# Altium schematic symbol library Sch_Lib.SchLib: 596 symbols (part 2 of 7)
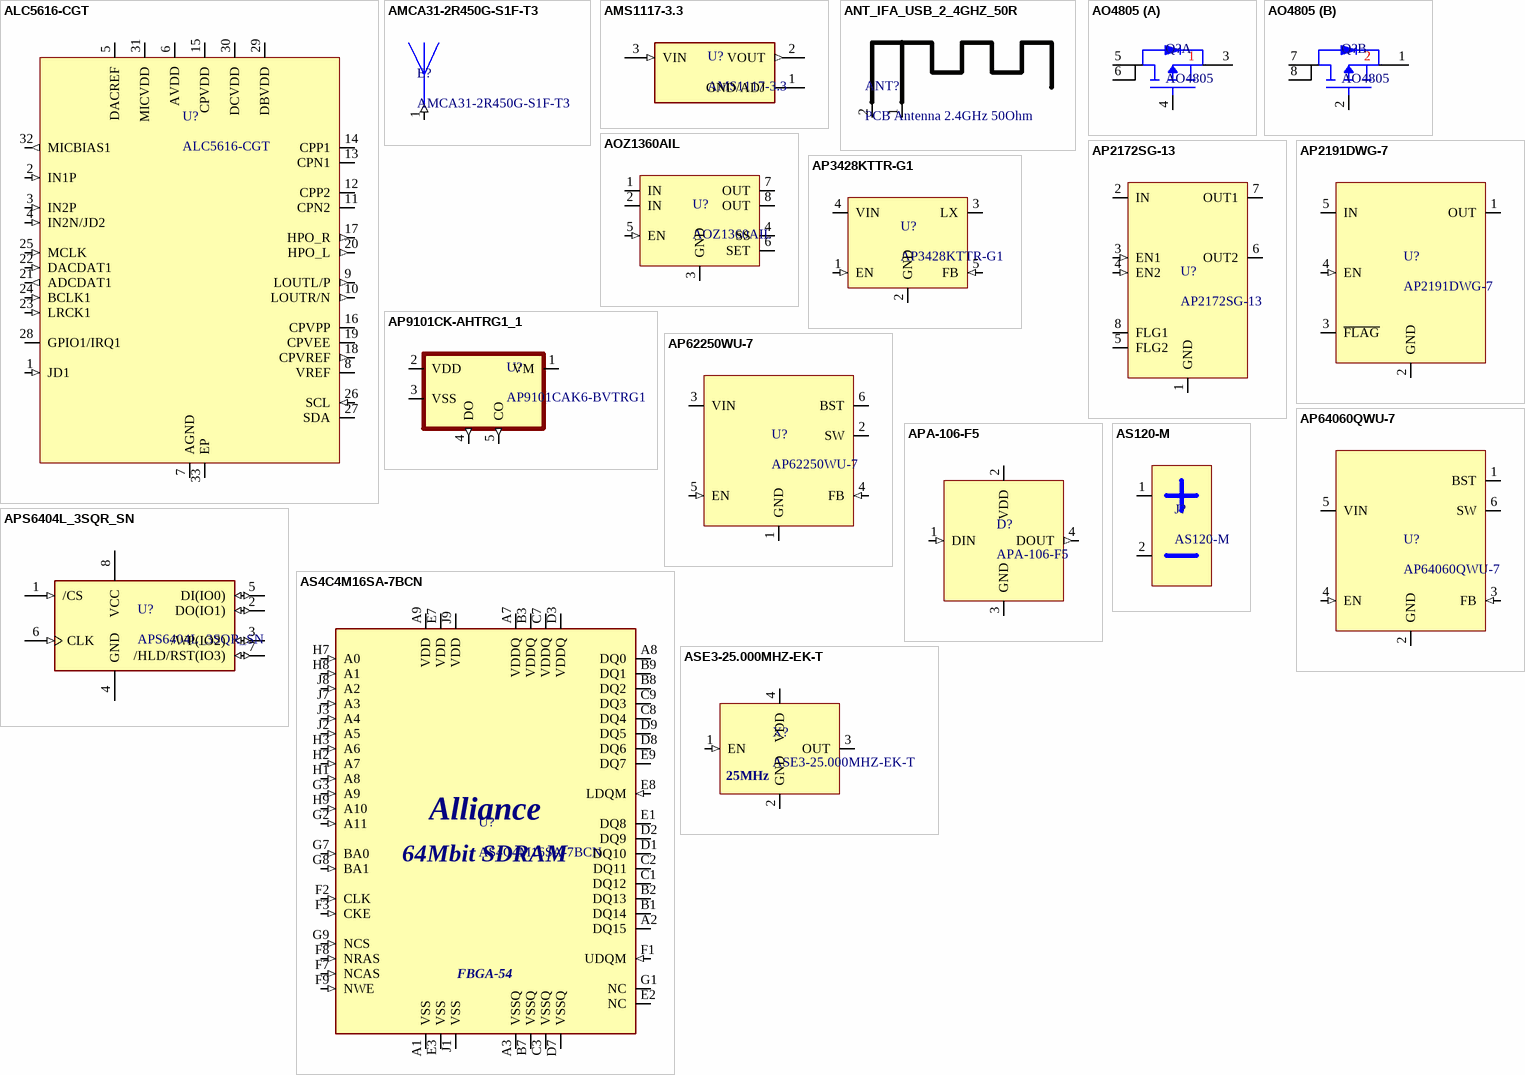
[diagram p38: symbols ALC5616-CGT to ASE3-25.000MHZ-EK-T]

## ASE3-25.000MHZ-EK-T
designator X?
Standard Clock Oscillators 25 MHZ 1.8V 15PF 4-PIN 3.2mm x 2.5mm; Manufacturer: ABRACON; Manufacturer Part Number: ASE3-25.000MHZ-EK-T
footprint XTAL_3225
pins: 1 EN (in), 2 GND (power), 3 OUT, 4 VDD (power)
text: 25MHz

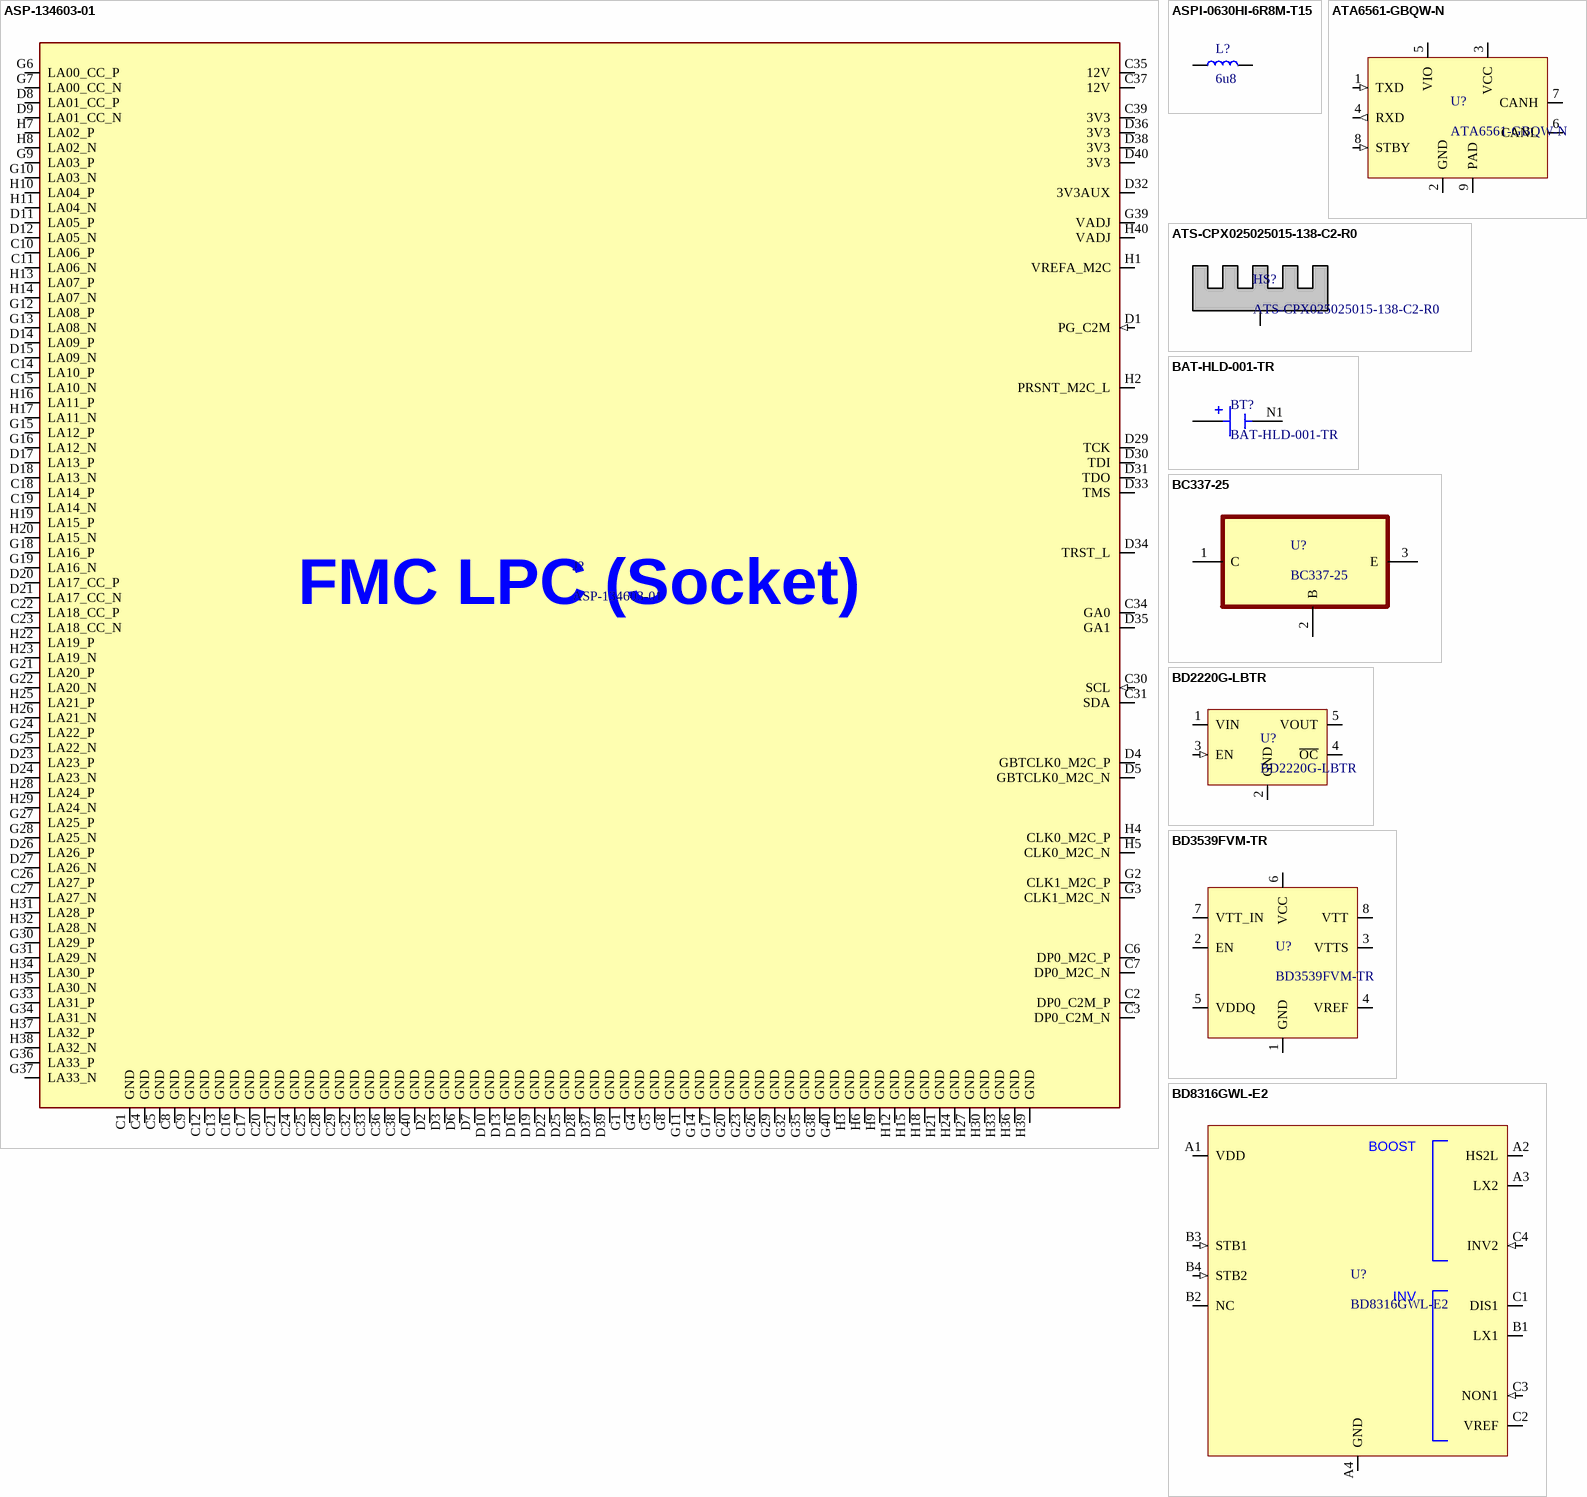
[diagram p6: symbols ASP-134603-01 to BD8316GWL-E2]

## ASP-134603-01
designator J?
VITA 57.1 FMC Connector LPC; Manufacturer: Samtec; Manufacturer Part Number: ASP-134603-01; Distributor Link: https://www.mouser.de/ProductDetail/Samtec/ASP-134603-01?qs=92ilVni64gy4PAaa88apew%3D%3D
footprint ASP-134603-01
pins: C1 GND (power), C2 DP0_C2M_P (io), C3 DP0_C2M_N (io), C4 GND (power), C5 GND (power), C6 DP0_M2C_P (io), C7 DP0_M2C_N (io), C8 GND (power), C9 GND (power), C10 LA06_P (io), C11 LA06_N (io), C12 GND (power), C13 GND (power), C14 LA10_P (io), C15 LA10_N (io), C16 GND (power), C17 GND (power), C18 LA14_P (io), C19 LA14_N (io), C20 GND (power), C21 GND (power), C22 LA18_CC_P (io), C23 LA18_CC_N (io), C24 GND (power), C25 GND (power), C26 LA27_P (io), C27 LA27_N (io), C28 GND (power), C29 GND (power), C30 SCL (in), C31 SDA (io), C32 GND (power), C33 GND (power), C34 GA0 (io), C35 12V (power), C36 GND, C37 12V (power), C38 GND, C39 3V3 (power), C40 GND, D1 PG_C2M (in), D2 GND (power), D3 GND (power), D4 GBTCLK0_M2C_P (io), D5 GBTCLK0_M2C_N (io), D6 GND (power), D7 GND (power), D8 LA01_CC_P (io), D9 LA01_CC_N (io), D10 GND (power), D11 LA05_P (io), D12 LA05_N (io), D13 GND (power), D14 LA09_P (io), D15 LA09_N (io), D16 GND (power), D17 LA13_P (io), D18 LA13_N (io), D19 GND (power), D20 LA17_CC_P (io), D21 LA17_CC_N (io), D22 GND (power), D23 LA23_P (io), D24 LA23_N (io), D25 GND (power), D26 LA26_P (io), D27 LA26_N (io), D28 GND (power), D29 TCK (io), D30 TDI (io), D31 TDO (io), D32 3V3AUX (power), D33 TMS (io), D34 TRST_L (io), D35 GA1 (io), D36 3V3 (power), D37 GND (power), D38 3V3 (power), D39 GND (power), D40 3V3 (power), G1 GND (power), G2 CLK1_M2C_P (io), G3 CLK1_M2C_N (io), G4 GND (power), G5 GND (power), G6 LA00_CC_P (io), G7 LA00_CC_N (io), G8 GND (power), G9 LA03_P (io), G10 LA03_N (io), G11 GND (power), G12 LA08_P (io), G13 LA08_N (io), G14 GND (power), G15 LA12_P (io), G16 LA12_N (io), G17 GND (power), G18 LA16_P (io), G19 LA16_N (io), G20 GND (power), G21 LA20_P (io), G22 LA20_N (io), G23 GND (power), G24 LA22_P (io), G25 LA22_N (io), G26 GND (power), G27 LA25_P (io), G28 LA25_N (io), G29 GND (power), G30 LA29_P (io), G31 LA29_N (io), G32 GND (power), G33 LA31_P (io), G34 LA31_N (io), G35 GND (power), G36 LA33_P (io), G37 LA33_N (io), G38 GND (power), G39 VADJ (power), G40 GND (power), H1 VREFA_M2C (power), H2 PRSNT_M2C_L (io), H3 GND (power), H4 CLK0_M2C_P (io), H5 CLK0_M2C_N (io), H6 GND (power), H7 LA02_P (io), H8 LA02_N (io), H9 GND (power), H10 LA04_P (io), H11 LA04_N (io), H12 GND (power), H13 LA07_P (io), H14 LA07_N (io), H15 GND (power), H16 LA11_P (io), H17 LA11_N (io), H18 GND (power), H19 LA15_P (io), H20 LA15_N (io), H21 GND (power), H22 LA19_P (io), H23 LA19_N (io), H24 GND (power), H25 LA21_P (io), H26 LA21_N (io), H27 GND (power), H28 LA24_P (io), H29 LA24_N (io), H30 GND (power), H31 LA28_P (io), H32 LA28_N (io), H33 GND (power), H34 LA30_P (io), H35 LA30_N (io), H36 GND (power), H37 LA32_P (io), H38 LA32_N (io), H39 GND (power), H40 VADJ (power)
text: FMC LPC (Socket)

## ASPI-0630HI-6R8M-T15
designator L?, comment 6u8
Inductor SMD 6.8uH 20% 8A Shielded; Manufacturer: ABRACON; Manufacturer Part Number: ASPI-0630HI-6R8M-T15
footprint ASPI-0630HI-6R8M-T15
pins: 1, 2

## ATA6561-GBQW-N
designator U?
CAN Interface IC High-Speed FD VDFN-8; Manufacturer: Microchip; Manufacturer Part Number: ATA6561-GBQW-N; Distributor Link: https://www.mouser.de/ProductDetail/Microchip-Technology/ATA6561-GBQW-N?qs=y6ZabgHbY%252BxuRHjTmdpZUA%3D%3D; LCSC: C617297
footprint VDFN-8
pins: 1 TXD (in), 2 GND (power), 3 VCC (power), 4 RXD (out), 5 VIO (power), 6 CANL (io), 7 CANH (io), 8 STBY (in), 9 PAD (power)

## ATS-CPX025025015-138-C2-R0
designator HS?
pushPIN™ Heat Sink 25x25x15mm; Manufacturer: ATS; Manufacturer Part Number: ATS-CPX025025015-138-C2-R0; Distributor Link: https://www.digikey.de/en/products/detail/advanced-thermal-solutions-inc/ATS-CPX025025015-138-C2-R0/4754010
footprint ATS-CPX025025015-138-C2-R0
pins: MH

## BAT-HLD-001-TR
designator BT?
Battery Retainer Coin, 20.0mm 1 Cell SMD (SMT) Tab; Availability: Unavailable; Package: None; MP: BAT-HLD-001-TR; Value: *; Price: None
footprint BAT_BAT-HLD-001-TR
pins: N1 NEG, P1 POS, P2 POS

## BC337-25
designator U?
Bipolar (BJT) Transistor NPN 45 V 800 mA 100MHz 625 mW Through Hole TO-92; MF: Diotec Semiconductor; SnapEDA_Link: https://www.snapeda.com/parts/BC337-25/Diotec/view-part/?ref=snap; Price: None; Check_prices: https://www.snapeda.com/parts/BC337-25/Diotec/view-part/?ref=eda; Value: *; Package: TO-92-3 Diotec; Availability: In Stock; Purchase-URL: https://pricing.snapeda.com/search/part/BC337-25/?ref=eda; MP: BC337-25
footprint TO127P254X732-3
pins: 1 C, 2 B, 3 E

## BD2220G-LBTR
designator U?
High-Side USB Current Limited Power Distribution Switch 1A SMD; Manufacturer: ROHM Semiconductor; Manufacturer Part Number: BD2220G-LBTR
footprint SSOP5
pins: 1 VIN (power), 2 GND (power), 3 EN (in), 4 ~{OC}, 5 VOUT

## BD3539FVM-TR
designator U?
1.0V to 5.5V, 1A 1Ch Termination Regulator for DDR-SDRAMs; Manufacturer: ROHM Semiconductor; Manufacturer Part Number: BD3539FVM-TR
footprint MSOP8 (TSOP, 8-Leads, Body 2.90x2.80mm, Pitch 0.65mm, IPC Medium Density)
pins: 1 GND, 2 EN, 3 VTTS, 4 VREF, 5 VDDQ, 6 VCC, 7 VTT_IN, 8 VTT

## BD8316GWL-E2
designator U?
Step-up and inverted 2-channel DC/DC converter with Built-in Power MOSFET 1.6MHz 1A; Manufacturer: ROHM; Manufacturer Part Number: BD8316GWL-E2; Distributor Link: https://www.mouser.de/ProductDetail/ROHM-Semiconductor/BD8316GWL-E2?qs=9Cg39qEKpi4sbGytSKsU5Q%3D%3D
footprint UCSP50L1
pins: A1 VDD (power), A2 HS2L (power), A3 LX2 (power), A4 GND (power), B1 LX1 (power), B2 NC, B3 STB1 (in), B4 STB2 (in), C1 DIS1 (power), C2 VREF (power), C3 NON1 (in), C4 INV2 (in)
text: BOOST; INV

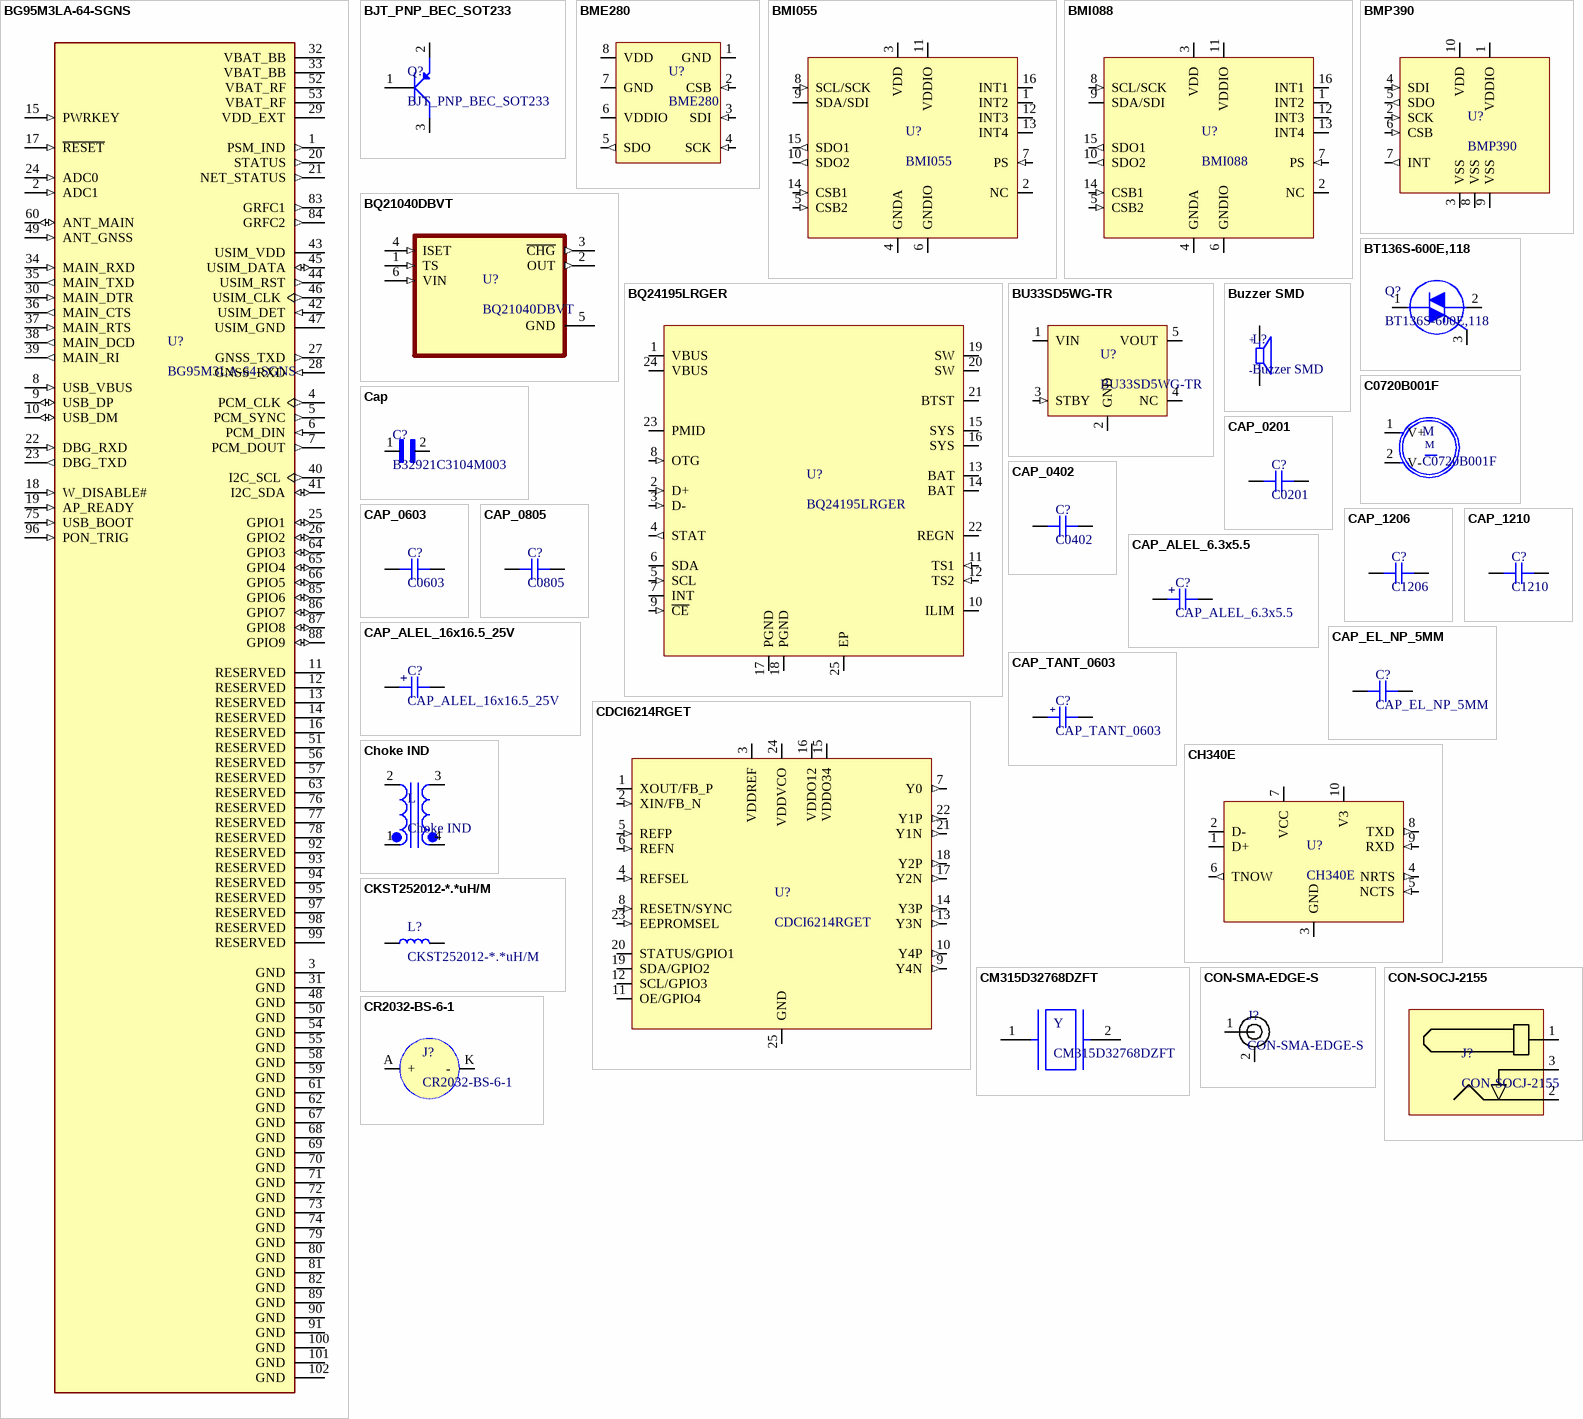
[diagram p7: symbols BG95M3LA-64-SGNS to CR2032-BS-6-1]

## BG95M3LA-64-SGNS
designator U?
Quectel BG95 Series LTE Cat M1/ Cat NB2/ EGPRS Module; MF: Quectel Wireless Solutions Co., Ltd; Purchase-URL: https://pricing.snapeda.com/search/part/BG95M3LA-64-SGNS/?ref=eda; Digi-Key_Part_Number: 2958-BG95M3LA-64-SGNSCT-ND; Check_prices: https://www.snapeda.com/parts/BG95M3LA-64-SGNS/Quectel/view-part/?ref=eda; Value: *; MP: BG95M3LA-64-SGNS; Package: Non-Standard Quectel; SnapEDA_Link: https://www.snapeda.com/parts/BG95M3LA-64-SGNS/Quectel/view-part/?ref=snap
footprint XCVR_BG95M3LA-64-SGNS
pins: 1 PSM_IND (out), 2 ADC1 (in), 3 GND (power), 4 PCM_CLK (out), 5 PCM_SYNC (out), 6 PCM_DIN (in), 7 PCM_DOUT (out), 8 USB_VBUS (in), 9 USB_DP (io), 10 USB_DM (io), 11 RESERVED, 12 RESERVED, 13 RESERVED, 14 RESERVED, 15 PWRKEY (in), 16 RESERVED, 17 ~{RESET} (in), 18 W_DISABLE# (in), 19 AP_READY (in), 20 STATUS (out), 21 NET_STATUS (out), 22 DBG_RXD (in), 23 DBG_TXD (out), 24 ADC0 (in), 25 GPIO1 (io), 26 GPIO2 (io), 27 GNSS_TXD (out), 28 GNSS_RXD (in), 29 VDD_EXT (power), 30 MAIN_DTR (in), 31 GND (power), 32 VBAT_BB (power), 33 VBAT_BB (power), 34 MAIN_RXD (in), 35 MAIN_TXD (out), 36 MAIN_CTS (out), 37 MAIN_RTS (in), 38 MAIN_DCD (out), 39 MAIN_RI (out), 40 I2C_SCL (out), 41 I2C_SDA (io), 42 USIM_DET (in), 43 USIM_VDD (power), 44 USIM_RST (out), 45 USIM_DATA (io), 46 USIM_CLK (out), 47 USIM_GND (power), 48 GND (power), 49 ANT_GNSS (in), 50 GND (power), 51 RESERVED, 52 VBAT_RF (power), 53 VBAT_RF (power), 54 GND (power), 55 GND (power), 56 RESERVED, 57 RESERVED, 58 GND (power), 59 GND (power), 60 ANT_MAIN (io), 61 GND (power), 62 GND (power), 63 RESERVED, 64 GPIO3 (io), 65 GPIO4 (io), 66 GPIO5 (io), 67 GND (power), 68 GND (power), 69 GND (power), 70 GND (power), 71 GND (power), 72 GND (power), 73 GND (power), 74 GND (power), 75 USB_BOOT (in), 76 RESERVED, 77 RESERVED, 78 RESERVED, 79 GND (power), 80 GND (power), 81 GND (power), 82 GND (power), 83 GRFC1 (out), 84 GRFC2 (out), 85 GPIO6 (io), 86 GPIO7 (io), 87 GPIO8 (io), 88 GPIO9 (io), 89 GND (power), 90 GND (power), 91 GND (power), 92 RESERVED, 93 RESERVED, 94 RESERVED, 95 RESERVED, 96 PON_TRIG (in), 97 RESERVED, 98 RESERVED, 99 RESERVED, 100 GND (power), 101 GND (power), 102 GND (power)

## BJT_PNP_BEC_SOT233
designator Q?
Transistor BJT PNP SOT-23-3 Package Base=1 Emitter=2 Collector=3
footprint SOT-23-3
pins: 1 B, 2 E, 3 C

## BME280
designator U?
Temperature and Humidity Sensor ROHS; Manufacturer: Bosch Sensortec; MPN: BME280; LCSC NO: C92489; ComponentLink1Description: LCSC Link; ComponentLink1URL: https://lcsc.com/product-detail/Temperature-and-Humidity-Sensor_Bosch-Sensortec-BME280_C92489.html?s_z=n_bme280
footprint BME_PSON65P250X250X100-8N
pins: 1 GND (power), 2 CSB (in), 3 SDI (in), 4 SCK (in), 5 SDO (out), 6 VDDIO (power), 7 GND (power), 8 VDD (power)

## BMI055
designator U?
Inertial Measurement Unit IMU 6-Axis LGA; Manufacturer: Bosch; Manufacturer Part Number: BMI055; LCSC: C189620
footprint BMI088
pins: 1 INT2 (io), 2 NC, 3 VDD (power), 4 GNDA (power), 5 CSB2 (in), 6 GNDIO (power), 7 PS (in), 8 SCL/SCK (in), 9 SDA/SDI (io), 10 SDO2 (out), 11 VDDIO (power), 12 INT3 (io), 13 INT4 (io), 14 CSB1 (in), 15 SDO1 (out), 16 INT1 (io)

## BMI088
designator U?
Inertial Measurement Unit IMU 6-Axis LGA; Manufacturer: Bosch; Manufacturer Part Number: BMI088
footprint BMI088
pins: 1 INT2 (io), 2 NC, 3 VDD (power), 4 GNDA (power), 5 CSB2 (in), 6 GNDIO (power), 7 PS (in), 8 SCL/SCK (in), 9 SDA/SDI (io), 10 SDO2 (out), 11 VDDIO (power), 12 INT3 (io), 13 INT4 (io), 14 CSB1 (in), 15 SDO1 (out), 16 INT1 (io)

## BMP390
designator U?
Digital Pressure Sensor SPI/I2C; Manufacturer: Bosch; Manufacturer Part Number: BMP390; Distributor Link: https://www.mouser.de/ProductDetail/Bosch-Sensortec/BMP390?qs=QNEnbhJQKvYQVfvRMgo2YA%3D%3D
footprint LGA10_BMP390
pins: 1 VDDIO (power), 2 SCK (in), 3 VSS (power), 4 SDI (in), 5 SDO (out), 6 CSB (in), 7 INT (out), 8 VSS (power), 9 VSS (power), 10 VDD (power)

## BQ21040DBVT
designator U?
1-cell, 0.8-A Li-ion and Li-polymer battery charger; MF: Texas Instruments; SnapEDA_Link: https://www.snapeda.com/parts/BQ21040DBVT/Texas+Instruments/view-part/?ref=snap; Package: SOT-23-6 Texas Instruments; Value: *; MP: BQ21040DBVT; Check_prices: https://www.snapeda.com/parts/BQ21040DBVT/Texas+Instruments/view-part/?ref=eda
footprint SOT95P280X145-6N
pins: 1 TS (in), 2 OUT (out), 3 ~{CHG} (out), 4 ISET (in), 5 GND (power), 6 VIN (in)

## BQ24195LRGER
designator U?
I2C Controlled 2.5-A /4.5-A Single Cell USB/Adapter Charger with 5.1 V at 1A /5.1 V at 2.1 A Synchronous Boost Operation; Manufacturer: Texas Instruments; Manufacturer Part Number: BQ24195LRGER; Distributor Link: https://www.mouser.de/ProductDetail/Texas-Instruments/BQ24195LRGER?qs=E2%2FxqS9xjzoHv98LC15jGg%3D%3D
footprint QFN-24 (QFN, 24-Leads, Body 4.00x4.00mm, Pitch 0.50mm, Thermal Pad 2.50x2.50mm, IPC Medium Density)
pins: 1 VBUS (power), 2 D+ (in), 3 D- (in), 4 STAT (out), 5 SCL (in), 6 SDA (io), 7 INT (oc), 8 OTG (in), 9 ~{CE} (in), 10 ILIM, 11 TS1 (in), 12 TS2 (in), 13 BAT (power), 14 BAT (power), 15 SYS (power), 16 SYS (power), 17 PGND (power), 18 PGND (power), 19 SW (oe), 20 SW (power), 21 BTST (power), 22 REGN (power), 23 PMID (power), 24 VBUS (power), 25 EP (power)

## BT136S-600E,118
designator Q?
TRIAC Logic - Sensitive Gate 600 V 4 A Surface Mount DPAK; MF: WeEn Semiconductors; SnapEDA_Link: https://www.snapeda.com/parts/BT136S-600E,118/WeEn+Semiconductors/view-part/?ref=snap; Purchase-URL: https://pricing.snapeda.com/search/part/BT136S-600E,118/?ref=eda; MP: BT136S-600E,118; Check_prices: https://www.snapeda.com/parts/BT136S-600E,118/WeEn+Semiconductors/view-part/?ref=eda; Availability: In Stock; Package: TO-252-3 WeEn Semiconductors; Price: None; Value: *
footprint BT136S600E118
pins: 1 MT1 (io), 2 MT2 (io), 3 G (io)

## BU33SD5WG-TR
designator U?
LDO Voltage Regulator 3.3V 500mA; Manufacturer: ROHM Semiconductor; Manufacturer Part Number: BU33SD5WG-TR
footprint SOT-23-5 (SOT23, 5-Leads, Body 2,90x2,80mm, Pitch 0,95mm, IPC Medium Density)
pins: 1 VIN (power), 2 GND (power), 3 STBY (in), 4 NC, 5 VOUT (power)

## Buzzer SMD
designator L?
footprint Buzzer
pins: +, -

## C0720B001F
designator M
DC Motor Vibration, ERM 10000 RPM 3VDC; MF: Jinlong Machinery; Availability: Unavailable; SnapEDA_Link: https://www.snapeda.com/parts/C0720B001F/Jinlong%20Machinery%20%26%20Electronics%2C%20Inc./view-part/645169/?ref=snap; MP: C0720B001F; Value: *; Price: None; Package: Jinlong Machinery
footprint XDCR_C0720B001F
pins: 1 V+ (power), 2 V- (power)

## Cap
designator C?, comment B32921C3104M003
Safety Capacitors FILM CAP MKP X2 0.10uF 20% 305Vac LS 10mm - short leads; MF: TDK; Package: None; Price: None; MP: B32921C3104M003; Availability: In Stock; Value: *; Check_prices: https://www.snapeda.com/parts/B32921C3104M003/TDK/view-part/?ref=eda; Purchase-URL: https://pricing.snapeda.com/search/part/B32921C3104M003/?ref=eda; SnapEDA_Link: https://www.snapeda.com/parts/B32921C3104M003/TDK/view-part/?ref=snap
footprint CAPRR1000W60L1300T600H1200
pins: 1, 2

## CAP_0201
designator C?, comment C0201
Capacitor SMD 0201; Manufacturer: *; Manufacturer Part Number: *; Distributor Link: *; LCSC: *; Rating: *; Dielectric: *
footprint CAP_0201
pins: 1, 2

## CAP_0402
designator C?, comment C0402
Capacitor SMD 0402; Manufacturer: *; Manufacturer Part Number: *; Distributor Link: *; LCSC: *; Rating: *; Dielectric: *
footprint CAP_0402
pins: 1, 2

## CAP_0603
designator C?, comment C0603
Capacitor SMD 0603; Manufacturer: *; Manufacturer Part Number: *; Distributor Link: *; LCSC: *; Rating: *; Dielectric: *
footprint CAP_0603
pins: 1, 2

## CAP_0805
designator C?, comment C0805
Capacitor SMD 0805; Manufacturer: *; Manufacturer Part Number: *; Distributor Link: *; LCSC: *; Rating: *; Dielectric: *
footprint CAP_0805
pins: 1, 2

## CAP_1206
designator C?, comment C1206
Capacitor SMD 1206; Manufacturer: *; Manufacturer Part Number: *; Distributor Link: *; LCSC: *; Rating: *; Dielectric: *
footprint CAP_1206
pins: 1, 2

## CAP_1210
designator C?, comment C1210
Capacitor SMD 1210; Manufacturer: *; Manufacturer Part Number: *; Distributor Link: *; LCSC: *; Rating: *; Dielectric: *
footprint CAP_1210
pins: 1, 2

## CAP_ALEL_6.3x5.5
designator C?
Capacitor SMD Aluminium Electrolytic 6.3mm Diameter 5.5mm Height; Manufacturer: *; Manufacturer Part Number: *; Distributor Link: *; LCSC: *
footprint CAP_AE_SMD_D6MM3_H5M55 (Aluminum Electrolytic Capacitor, Body 6.30x6.60x5.50mm, IPC Low Density)
pins: 1, 2
text: +

## CAP_ALEL_16x16.5_25V
designator C?
Capacitor SMD Aluminium Electrolytic 16x16.5mm 25V; Manufacturer: *; Manufacturer Part Number: *
footprint CAP_ALEL_16x16.5 (Aluminum Electrolytic Capacitor, Body 17.00x17.00x17.00mm, IPC Low Density)
pins: 1, 2
text: +

## CAP_EL_NP_5MM
designator C?
Capacitor SMD Electrolytic Non-Polarised 5mm Diameter; Manufacturer: Nichicon; Manufacturer Part Number: *
footprint CAP-EL-NP-5MM
pins: 1, 2

## CAP_TANT_0603
designator C?
Capacitor SMD Tantalum 0603; Manufacturer: *; Manufacturer Part Number: *; Distributor Link: *; LCSC: *
footprint CAP_TANT_0603
pins: A, K
text: +

## CDCI6214RGET
designator U?
Ultra-Low Power Clock Generator With PCIe Support Four Programmable Outputs and EEPROM; Manufacturer: Texas Instruments; Manufacturer Part Number: CDCI6214RGET; Distributor Link: https://eu.mouser.com/ProductDetail/Texas-Instruments/CDCI6214RGET?qs=HXFqYaX1Q2znJq%252BVfYpkgA%3D%3D; LCSC: C2651236
footprint VQFN-24-0MM5
pins: 1 XOUT/FB_P (io), 2 XIN/FB_N (in), 3 VDDREF (power), 4 REFSEL (in), 5 REFP (in), 6 REFN (in), 7 Y0 (out), 8 RESETN/SYNC (in), 9 Y4N (out), 10 Y4P (out), 11 OE/GPIO4 (io), 12 SCL/GPIO3 (io), 13 Y3N (out), 14 Y3P (out), 15 VDDO34 (power), 16 VDDO12 (power), 17 Y2N (out), 18 Y2P (out), 19 SDA/GPIO2 (io), 20 STATUS/GPIO1 (io), 21 Y1N (out), 22 Y1P (out), 23 EEPROMSEL (in), 24 VDDVCO (power), 25 GND (power)

## CH340E
designator U?
USB-to-UART Transceiver MSOP-10; Manufacturer Part Number: CH340E
footprint MSOP-10
pins: 1 D+ (io), 2 D- (io), 3 GND (power), 4 NRTS (out), 5 NCTS (in), 6 TNOW (out), 7 VCC (power), 8 TXD (out), 9 RXD (in), 10 V3 (power)

## Choke IND
designator L
Inductor; Ind 2.4 mH; Cur-Rtg 17 A; DCR 0.008 Ohms; PCB; Common Mode; Toroidal; MF: Triad Magnetics; MP: CMT-8120; Package: Vertical-4 Triad Magnetics; Price: None; Value: *; SnapEDA_Link: https://www.snapeda.com/parts/CMT-8120/Triad%20Magnetics/view-part/1543584/?ref=snap; Availability: Unavailable
footprint IND_CMT-8120
pins: 1, 2, 3, 4

## CKST252012-*.*uH/M
designator L?
Inductor SMD Shielded 20%; Manufacturer: Shenzhen Cenker Enterprise Ltd; Manufacturer Part Number: CKST252012-*.*uH/M; Distributor Link: *
footprint CKST252012
pins: 1, 2

## CM315D32768DZFT
designator Y
32.768kHz Â±20ppm Crystal 12.5pF 70 kOhms 2-SMD, No Lead; MF: Citizen Finedevice; Package: SMD-2 Citizen Finedevice; Price: None; Availability: Unavailable; MP: CM315D32768DZFT; SnapEDA_Link: https://www.snapeda.com/parts/CM315D32768DZFT/Citizen%20Finedevice%20Co%20Ltd/view-part/652327/?ref=snap; Value: *
footprint XTAL_CM315D32768DZFT
pins: 1 P$1, 2 P$2

## CON-SMA-EDGE-S
designator J?
RF Connector SMA Female 50 Ohms 18 GHz PCB Edge Mount; Manufacturer: RF Solutions; Manufacturer Part Number: CON-SMA-EDGE-S
footprint CON-SMA-EDGE-S
pins: 1, 2

## CON-SOCJ-2155
designator J?
DC Barrell Jack 2.1mm 30V 2.5A THT; Manufacturer: Gravitech; Manufacturer Part Number: CON-SOCJ-2155
footprint CON-SOCJ-2155
pins: 1, 2, 3

## CR2032-BS-6-1
designator J?
CR2032 Coin Cell Battery Holder; Manufacturer: Q&J; Manufacturer Part Number: CR2032-BS-6-1
footprint CR2032
pins: A +, K -

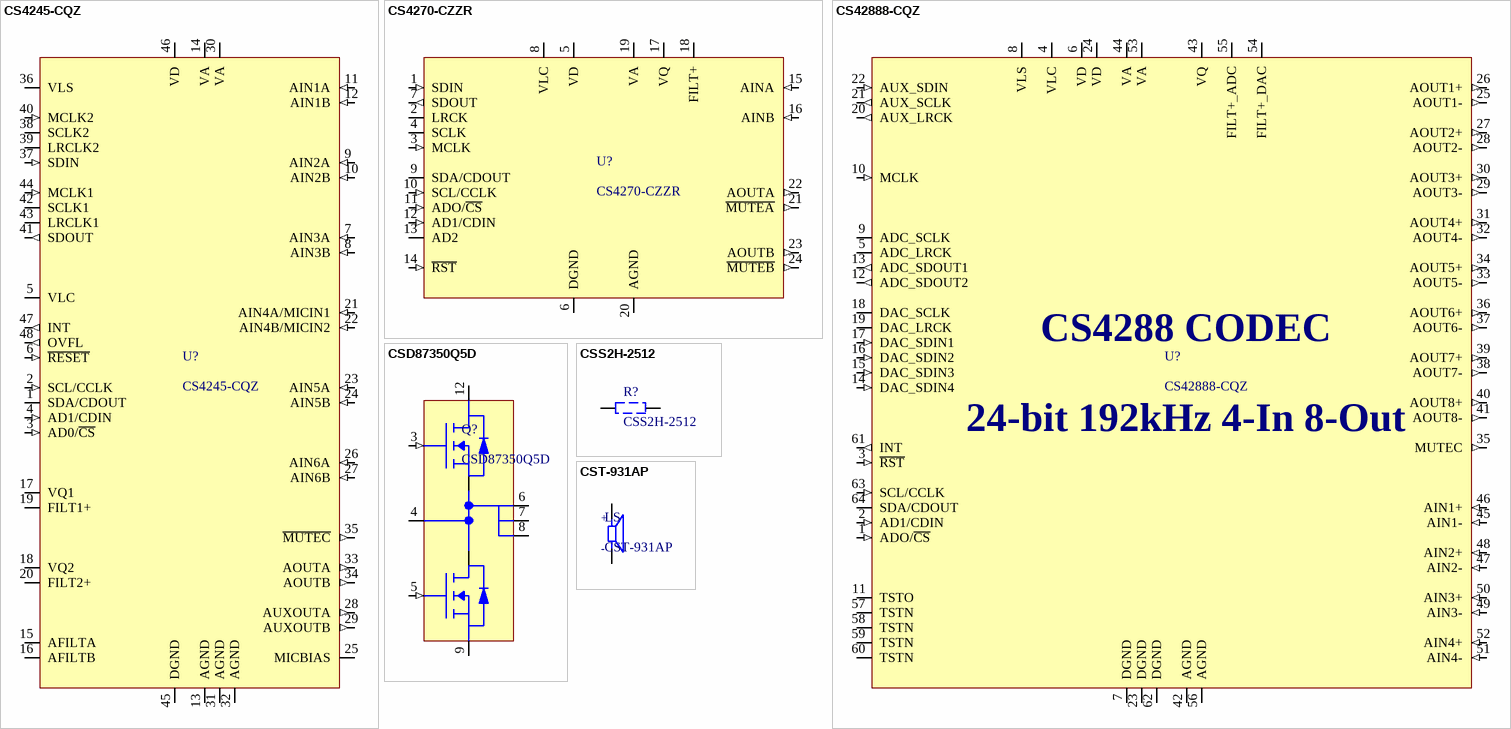
[diagram p8: symbols CS4245-CQZ to CST-931AP]

## CS4245-CQZ
designator U?
104 dB, 24-Bit, 192 kHz Stereo Audio Codec; Manufacturer: Cirrus Logic; Manufacturer Part Number: CS4245-CQZ
footprint LQFP-48
pins: 1 SDA/CDOUT (io), 2 SCL/CCLK (in), 3 AD0/~{CS} (in), 4 AD1/CDIN (in), 5 VLC (power), 6 ~{RESET} (in), 7 AIN3A (in), 8 AIN3B (in), 9 AIN2A (in), 10 AIN2B (in), 11 AIN1A (in), 12 AIN1B (in), 13 AGND (power), 14 VA (power), 15 AFILTA (power), 16 AFILTB (power), 17 VQ1 (power), 18 VQ2 (power), 19 FILT1+ (power), 20 FILT2+ (power), 21 AIN4A/MICIN1 (in), 22 AIN4B/MICIN2 (in), 23 AIN5A (in), 24 AIN5B (in), 25 MICBIAS (power), 26 AIN6A (in), 27 AIN6B (in), 28 AUXOUTA (out), 29 AUXOUTB (out), 30 VA (power), 31 AGND (power), 32 AGND (power), 33 AOUTA (out), 34 AOUTB (out), 35 ~{MUTEC} (out), 36 VLS (power), 37 SDIN (in), 38 SCLK2 (io), 39 LRCLK2 (io), 40 MCLK2 (in), 41 SDOUT (out), 42 SCLK1 (io), 43 LRCLK1 (io), 44 MCLK1 (in), 45 DGND (power), 46 VD (power), 47 INT (out), 48 OVFL (out)

## CS4270-CZZR
designator U?
24-Bit 192kHz Stereo Audio Codec TSSOP-24; Manufacturer: Cirrus Logic; Manufacturer Part Number: CS4270-CZZR
footprint TSSOP-24
pins: 1 SDIN (in), 2 LRCK (io), 3 MCLK (in), 4 SCLK (io), 5 VD (power), 6 DGND (power), 7 SDOUT (out), 8 VLC (power), 9 SDA/CDOUT (io), 10 SCL/CCLK (in), 11 ADO/~{CS} (in), 12 AD1/CDIN (in), 13 AD2, 14 ~{RST} (in), 15 AINA (in), 16 AINB (in), 17 VQ (power), 18 FILT+ (power), 19 VA (power), 20 AGND (power), 21 ~{MUTEA} (out), 22 AOUTA (out), 23 AOUTB (out), 24 ~{MUTEB} (out)

## CS42888-CQZ
designator U?
CODEC 108dB 192kHz 4-In 8-Out LQFP-64 Commercial Grade; Manufacturer: Cirrus Logic; Manufacturer Part Number: CS42888-CQZ
footprint LQFP-64-0.5mm (TSQFP, 64-Leads, Body 10.00x10.00mm, Pitch 0.50mm, IPC Medium Density)
pins: 1 ADO/~{CS} (in), 2 AD1/CDIN (in), 3 ~{RST} (in), 4 VLC (power), 5 ADC_LRCK (io), 6 VD (power), 7 DGND (power), 8 VLS (power), 9 ADC_SCLK (io), 10 MCLK (in), 11 TSTO, 12 ADC_SDOUT2 (out), 13 ADC_SDOUT1 (out), 14 DAC_SDIN4 (in), 15 DAC_SDIN3 (in), 16 DAC_SDIN2 (in), 17 DAC_SDIN1 (in), 18 DAC_SCLK (io), 19 DAC_LRCK (io), 20 AUX_LRCK (out), 21 AUX_SCLK (out), 22 AUX_SDIN (in), 23 DGND (power), 24 VD (power), 25 AOUT1- (out), 26 AOUT1+ (out), 27 AOUT2+ (out), 28 AOUT2- (out), 29 AOUT3- (out), 30 AOUT3+ (out), 31 AOUT4+ (out), 32 AOUT4- (out), 33 AOUT5- (out), 34 AOUT5+ (out), 35 MUTEC (out), 36 AOUT6+ (out), 37 AOUT6- (out), 38 AOUT7- (out), 39 AOUT7+ (out), 40 AOUT8+ (out), 41 AOUT8- (out), 42 AGND (power), 43 VQ (power), 44 VA (power), 45 AIN1- (in), 46 AIN1+ (in), 47 AIN2- (in), 48 AIN2+ (in), 49 AIN3- (in), 50 AIN3+ (in), 51 AIN4- (in), 52 AIN4+ (in), 53 VA (power), 54 FILT+_DAC (power), 55 FILT+_ADC (power), 56 AGND (power), 57 TSTN, 58 TSTN, 59 TSTN, 60 TSTN, 61 INT (out), 62 DGND (power), 63 SCL/CCLK (in), 64 SDA/CDOUT (io)
text: CS4288 CODEC; 24-bit 192kHz 4-In 8-Out

## CSD87350Q5D
designator Q?
Synchronous Buck NexFET™ Power Block; Manufacturer: Texas Instruments; Manufacturer Part Number: CSD87350Q5D; Distributor Link: https://eu.mouser.com/ProductDetail/Texas-Instruments/CSD87350Q5D?qs=JoYuLptCJEEhVuDl%2F9%2FpHA%3D%3D; LCSC: C140356
footprint LSON-CLIP-8
pins: 3 TG (in), 4 TGR, 5 BG (in), 6 VSW (power), 7 VSW (power), 8 VSW (power), 9 PGND (power), 12 VIN (power), D, S

## CSS2H-2512
designator R?
Current Sense Resistor SMD CSS2H-2512; Manufacturer: Bourns; Manufacturer Part Number: CSS2H-2512
footprint CSS2H-2512
pins: 1, 2

## CST-931AP
designator LS
9 mm, 3 V, 85 dB, Through Hole, Magnetic Audio Transducer Buzzer; MF: CUI Devices; Price: None; Availability: Unavailable; Package: CUI Inc.; CUI_purchase_URL: https://www.cuidevices.com/product/audio/buzzers/audio-transducers/cst-931ap?utm_source=snapeda.com&utm_medium=referral&utm_campaign=snapedaBOM; MP: CST-931AP; Value: *; SnapEDA_Link: https://www.snapeda.com/parts/CST-931AP/CUI%20Devices/view-part/1551284/?ref=snap
footprint CUI_CST-931AP
pins: M, P
text: +; -

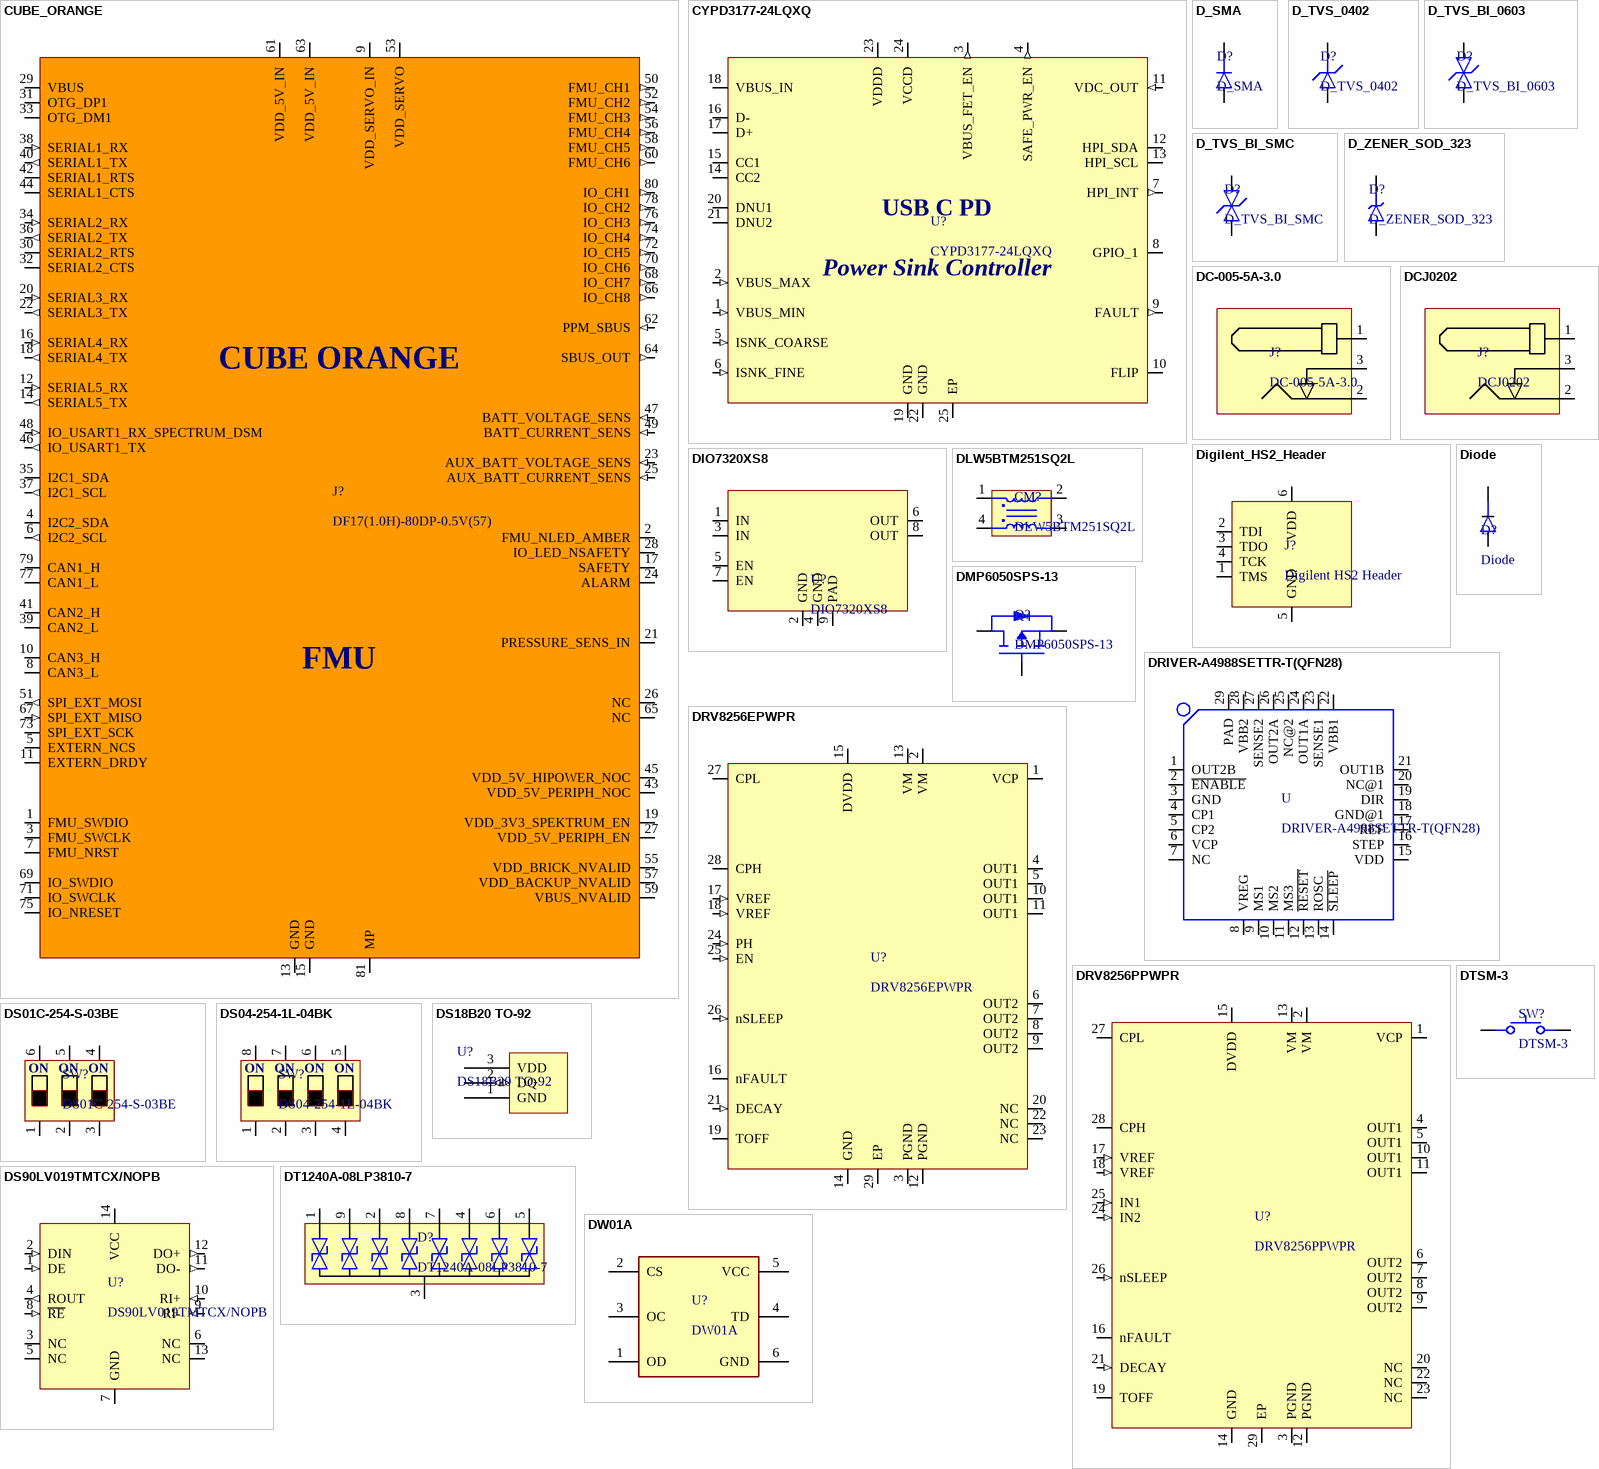
[diagram p9: symbols CUBE_ORANGE to DW01A]

## CUBE_ORANGE
designator J?, comment DF17(1.0H)-80DP-0.5V(57)
Cube Orange Pinout (Hirose DF17(1.0H)-80DP-0.5V(57) Connector); Manufacturer: Hirose; Manufacturer Part Number: DF17(1.0H)-80DP-0.5V(57)
footprint CUBE_ORANGE
pins: 1 FMU_SWDIO, 2 FMU_NLED_AMBER, 3 FMU_SWCLK, 4 I2C2_SDA (io), 5 EXTERN_NCS, 6 I2C2_SCL (out), 7 FMU_NRST, 8 CAN3_L (io), 9 VDD_SERVO_IN, 10 CAN3_H (io), 11 EXTERN_DRDY, 12 SERIAL5_RX (in), 13 GND, 14 SERIAL5_TX (out), 15 GND, 16 SERIAL4_RX (in), 17 SAFETY, 18 SERIAL4_TX (out), 19 VDD_3V3_SPEKTRUM_EN, 20 SERIAL3_RX (in), 21 PRESSURE_SENS_IN, 22 SERIAL3_TX (out), 23 AUX_BATT_VOLTAGE_SENS (in), 24 ALARM, 25 AUX_BATT_CURRENT_SENS (in), 26 NC, 27 VDD_5V_PERIPH_EN, 28 IO_LED_NSAFETY, 29 VBUS, 30 SERIAL2_RTS, 31 OTG_DP1 (io), 32 SERIAL2_CTS, 33 OTG_DM1 (io), 34 SERIAL2_RX (in), 35 I2C1_SDA (io), 36 SERIAL2_TX (out), 37 I2C1_SCL (out), 38 SERIAL1_RX (in), 39 CAN2_L (io), 40 SERIAL1_TX (out), 41 CAN2_H (io), 42 SERIAL1_RTS, 43 VDD_5V_PERIPH_NOC, 44 SERIAL1_CTS, 45 VDD_5V_HIPOWER_NOC, 46 IO_USART1_TX (out), 47 BATT_VOLTAGE_SENS (in), 48 IO_USART1_RX_SPECTRUM_DSM (in), 49 BATT_CURRENT_SENS (in), 50 FMU_CH1 (out), 51 SPI_EXT_MOSI (out), 52 FMU_CH2 (out), 53 VDD_SERVO, 54 FMU_CH3 (out), 55 VDD_BRICK_NVALID, 56 FMU_CH4 (out), 57 VDD_BACKUP_NVALID, 58 FMU_CH5 (out), 59 VBUS_NVALID, 60 FMU_CH6 (out), 61 VDD_5V_IN, 62 PPM_SBUS (in), 63 VDD_5V_IN, 64 SBUS_OUT (out), 65 NC, 66 IO_CH8 (out), 67 SPI_EXT_MISO (in), 68 IO_CH7 (out), 69 IO_SWDIO, 70 IO_CH6 (out), 71 IO_SWCLK, 72 IO_CH5 (out), 73 SPI_EXT_SCK, 74 IO_CH4 (out), 75 IO_NRESET, 76 IO_CH3 (out), 77 CAN1_L (io), 78 IO_CH2 (out), 79 CAN1_H (io), 80 IO_CH1 (out), 81 MP
text: CUBE ORANGE; FMU

## CYPD3177-24LQXQ
designator U?
USB Type-C Port Controller for Power Sinks; Manufacturer: Cypress Semicon; Manufacturer Part Number: CYPD3177-24LQXQ; Distributor Link: https://www.lcsc.com/product-detail/USB-ICs_Cypress-Semicon-CYPD3177-24LQXQ_C2959321.html
footprint QFN-24-0MM5
pins: 1 VBUS_MIN (in), 2 VBUS_MAX (in), 3 VBUS_FET_EN (out), 4 SAFE_PWR_EN (out), 5 ISNK_COARSE (in), 6 ISNK_FINE (in), 7 HPI_INT (out), 8 GPIO_1 (io), 9 FAULT (out), 10 FLIP (oc), 11 VDC_OUT (in), 12 HPI_SDA (oc), 13 HPI_SCL (oc), 14 CC2 (io), 15 CC1 (io), 16 D-, 17 D+, 18 VBUS_IN (power), 19 GND (power), 20 DNU1, 21 DNU2, 22 GND (power), 23 VDDD (power), 24 VCCD (power), 25 EP (power)
text: USB C PD; Power Sink Controller

## D_SMA
designator D?
Diode SMD SMA (DO-214AA)
footprint DO-214AC-2 (SMA)
pins: A, K

## D_TVS_0402
designator D?
Diode TVS / ESD 0402
footprint D_0402
pins: A, K

## D_TVS_BI_0603
designator D?
Diode TVS / ESD Bidirectional 0603; Manufacturer: *; Manufacturer Part Number: *
footprint D_0603
pins: A, K

## D_TVS_BI_SMC
designator D?
Diode TVS / ESD Bidirectional SMC (DO-214AB); Manufacturer: *; Manufacturer Part Number: *; Distributor Link: *
footprint SMC-DO-214AB
pins: A, K

## D_ZENER_SOD_323
designator D?
Diode Zener SMD SOD-323
footprint SOD-323
pins: A, K

## DC-005-5A-3.0
designator J?
DC Barrell Jack 6.2mm 5 A3.0mm Through Hole; Parameter 1: XKB; Parameter 2: DC-005-5A-3.0
footprint DC-005-5A-3.0
pins: 1, 2, 3

## DCJ0202
designator J?
DC Barrell Jack 2.1mm 24V 5A THT; Manufacturer: CONEC; Manufacturer Part Number: DCJ0202
footprint DCJ0202
pins: 1, 2, 3

## Digilent_HS2_Header
designator J?, comment Digilent HS2 Header
Digilent HS2 6-Pin 2.54mm Pitch Header; Manufacturer: Amphenol FCI; Manufacturer Part Number: 68000-406HLF
footprint DIGILENT_HS2
pins: 1 TMS, 2 TDI, 3 TDO, 4 TCK, 5 GND (power), 6 VDD (power)

## DIO7320XS8
designator U?
Power Distribution 5.5V 5A Load switch with slew rate control and reverse current blocking; Manufacturer: DIOO; Manufacturer Part Number: DIO7320XS8
footprint SOIC127P600X165_HS-9N (SOIC, 8-Leads, Body 4.90x3.90mm, Pitch 1.27mm, Thermal Pad 3.10x2.21mm, IPC Medium Density)
pins: 1 IN, 2 GND, 3 IN, 4 GND, 5 EN, 6 OUT, 7 EN, 8 OUT, 9 PAD

## Diode
designator D?
SMAF 700mV diode
footprint DIOM5226X100N
pins: A, K

## DLW5BTM251SQ2L
designator CM?
Common Mode Choke 5A 250R 20mR; Manufacturer: Murata; Manufacturer Part Number: DLW5BTM251SQ2L; Distributor Link: https://www.mouser.de/ProductDetail/Murata-Electronics/DLW5BTM251SQ2L?qs=6RPrPjhwTH9TmsO%252BRNiuwA%3D%3D; LCSC: C576407
footprint CMC-2020
pins: 1, 2, 3, 4

## DMP6050SPS-13
designator Q?
MOSFET P-Channel Vds=60V Vgs=+-20V Id=26A Rds(on|=50mOhms; Manufacturer: Diodes Incorporated; Manufacturer Part Number: DMP6050SPS-13
footprint PowerDI5060-8
pins: 1 D, 2 G, 3 S

## DRIVER-A4988SETTR-T(QFN28)
designator U
Bipolar Motor Driver DMOS Logic 28-QFN _5x5_; MF: Allegro MicroSystems LLC; MP: A4988SETTRT; Price: None; Availability: Unavailable; SnapEDA_Link: https://www.snapeda.com/parts/A4988SETTRT/Allegro%20MicroSystems%20LLC/view-part/75870/?ref=snap; Value: *; Package: QFN-28 Allegro MicroSystems LLC
footprint QFN28G_0.5-5X5MM
pins: 1 OUT2B (io), 2 ~{ENABLE} (io), 3 GND (io), 4 CP1 (io), 5 CP2 (io), 6 VCP (io), 7 NC (io), 8 VREG (io), 9 MS1 (io), 10 MS2 (io), 11 MS3 (io), 12 ~{RESET} (io), 13 ROSC (io), 14 ~{SLEEP} (io), 15 VDD (io), 16 STEP (io), 17 REF (io), 18 GND@1 (io), 19 DIR (io), 20 NC@1 (io), 21 OUT1B (io), 22 VBB1 (io), 23 SENSE1 (io), 24 OUT1A (io), 25 NC@2 (io), 26 OUT2A (io), 27 SENSE2 (io), 28 VBB2 (io), 29 PAD (io)

## DRV8256EPWPR
designator U?
H-Bridge Motor Driver With Integrated Current Sense, 4.5V to 48V, 8A; Manufacturer: Texas Instruments; Manufacturer Part Number: DRV8256EPWPR
footprint TSSOP-28-PowerPAD (TSOP, 28-Leads, Body 9.70x4.40mm, Pitch 0.65mm, Thermal Pad 4.05x3.10mm, IPC Medium Density)
pins: 1 VCP (power), 2 VM (power), 3 PGND (power), 4 OUT1 (power), 5 OUT1 (power), 6 OUT2 (power), 7 OUT2 (power), 8 OUT2 (power), 9 OUT2 (power), 10 OUT1 (power), 11 OUT1 (power), 12 PGND (power), 13 VM (power), 14 GND (power), 15 DVDD (power), 16 nFAULT (oc), 17 VREF (in), 18 VREF (in), 19 TOFF, 20 NC, 21 DECAY (in), 22 NC, 23 NC, 24 PH (in), 25 EN (in), 26 nSLEEP (in), 27 CPL (power), 28 CPH (power), 29 EP (power)

## DRV8256PPWPR
designator U?
H-Bridge Motor Driver With Integrated Current Sense, 4.5V to 48V, 8A; Manufacturer: Texas Instruments; Manufacturer Part Number: DRV8256PPWPR
footprint TSSOP-28-PowerPAD (TSOP, 28-Leads, Body 9.70x4.40mm, Pitch 0.65mm, Thermal Pad 4.05x3.10mm, IPC Medium Density)
pins: 1 VCP (power), 2 VM (power), 3 PGND (power), 4 OUT1 (power), 5 OUT1 (power), 6 OUT2 (power), 7 OUT2 (power), 8 OUT2 (power), 9 OUT2 (power), 10 OUT1 (power), 11 OUT1 (power), 12 PGND (power), 13 VM (power), 14 GND (power), 15 DVDD (power), 16 nFAULT (oc), 17 VREF (in), 18 VREF (in), 19 TOFF, 20 NC, 21 DECAY (in), 22 NC, 23 NC, 24 IN2 (in), 25 IN1 (in), 26 nSLEEP (in), 27 CPL (power), 28 CPH (power), 29 EP (power)

## DS01C-254-S-03BE
designator SW?
DIP Switch SPST 3 Positions Short Pins 2.54mm Pitch; Manufacturer: CUI Devices; Manufacturer Part Number: DS01C-254-S-03BE
footprint DS01C-254-S-03BE
pins: 1, 2, 3, 4, 5, 6
text: ON

## DS04-254-1L-04BK
designator SW?
DIP Switch SPST 4 Positions Short Pins 2.54mm Pitch; Manufacturer: CUI Devices; Manufacturer Part Number: DS04-254-1L-04BK; Distributor Link: https://www.mouser.de/ProductDetail/CUI-Devices/DS04-254-1L-04BK?qs=wnTfsH77Xs6GCysQKZgHrw%3D%3D
footprint DS04-254-1L-04BK
pins: 1, 2, 3, 4, 5, 6, 7, 8
text: ON

## DS18B20 TO-92
designator U?
TO-92 THT Digital Thermometer that provides 9-bit to 12-bit Celcius Temp measurements
footprint TO92127P520H787-3
pins: 1 GND (power), 2 DQ (io), 3 VDD (power)

## DS90LV019TMTCX/NOPB
designator U?
LVDS Driver/Receiver; Manufacturer: Texas Instruments; Manufacturer Part Number: DS90LV019TMTCX/NOPB; Distributor Link: https://eu.mouser.com/ProductDetail/Texas-Instruments/DS90LV019TMTCX-NOPB?qs=X1J7HmVL2ZGfxU9NrWVkiA%3D%3D; LCSC: C87061
footprint TSSOP-14
pins: 1 DE (in), 2 DIN (in), 3 NC, 4 ROUT (out), 5 NC, 6 NC, 7 GND (power), 8 ~{RE} (in), 9 RI- (in), 10 RI+ (in), 11 DO- (out), 12 DO+ (out), 13 NC, 14 VCC (power)

## DT1240A-08LP3810-7
designator D?
8-CHANNEL LOW CAPACITANCE TVS DIODE ARRAY 0.6pF; Manufacturer: Diodes Incorporated; Manufacturer Part Number: DT1240A-08LP3810-7
footprint DFN3810B-9
pins: 1 L1, 2 L3, 3 GND (power), 4 L6, 5 L8, 6 L7, 7 L5, 8 L4, 9 L2

## DTSM-3
designator SW?
Tactile Switch SMD SPST; Manufacturer: Diptronics; Manufacturer Part Number: DTSM-3
footprint DTSM-3
pins: 1, 2

## DW01A
designator U?
One Cell Lithium-ion/Polymer Battery Protection IC; MF: Fortune Semiconductor; SnapEDA_Link: https://www.snapeda.com/parts/DW01A/Fortune+Semiconductor/view-part/?ref=snap; Package: SOT-23-6 Fortune Semiconductor; Value: *; MP: DW01A; Check_prices: https://www.snapeda.com/parts/DW01A/Fortune+Semiconductor/view-part/?ref=eda
footprint SOT95P280X145-6N
pins: 1 OD, 2 CS, 3 OC, 4 TD, 5 VCC (power), 6 GND (power)

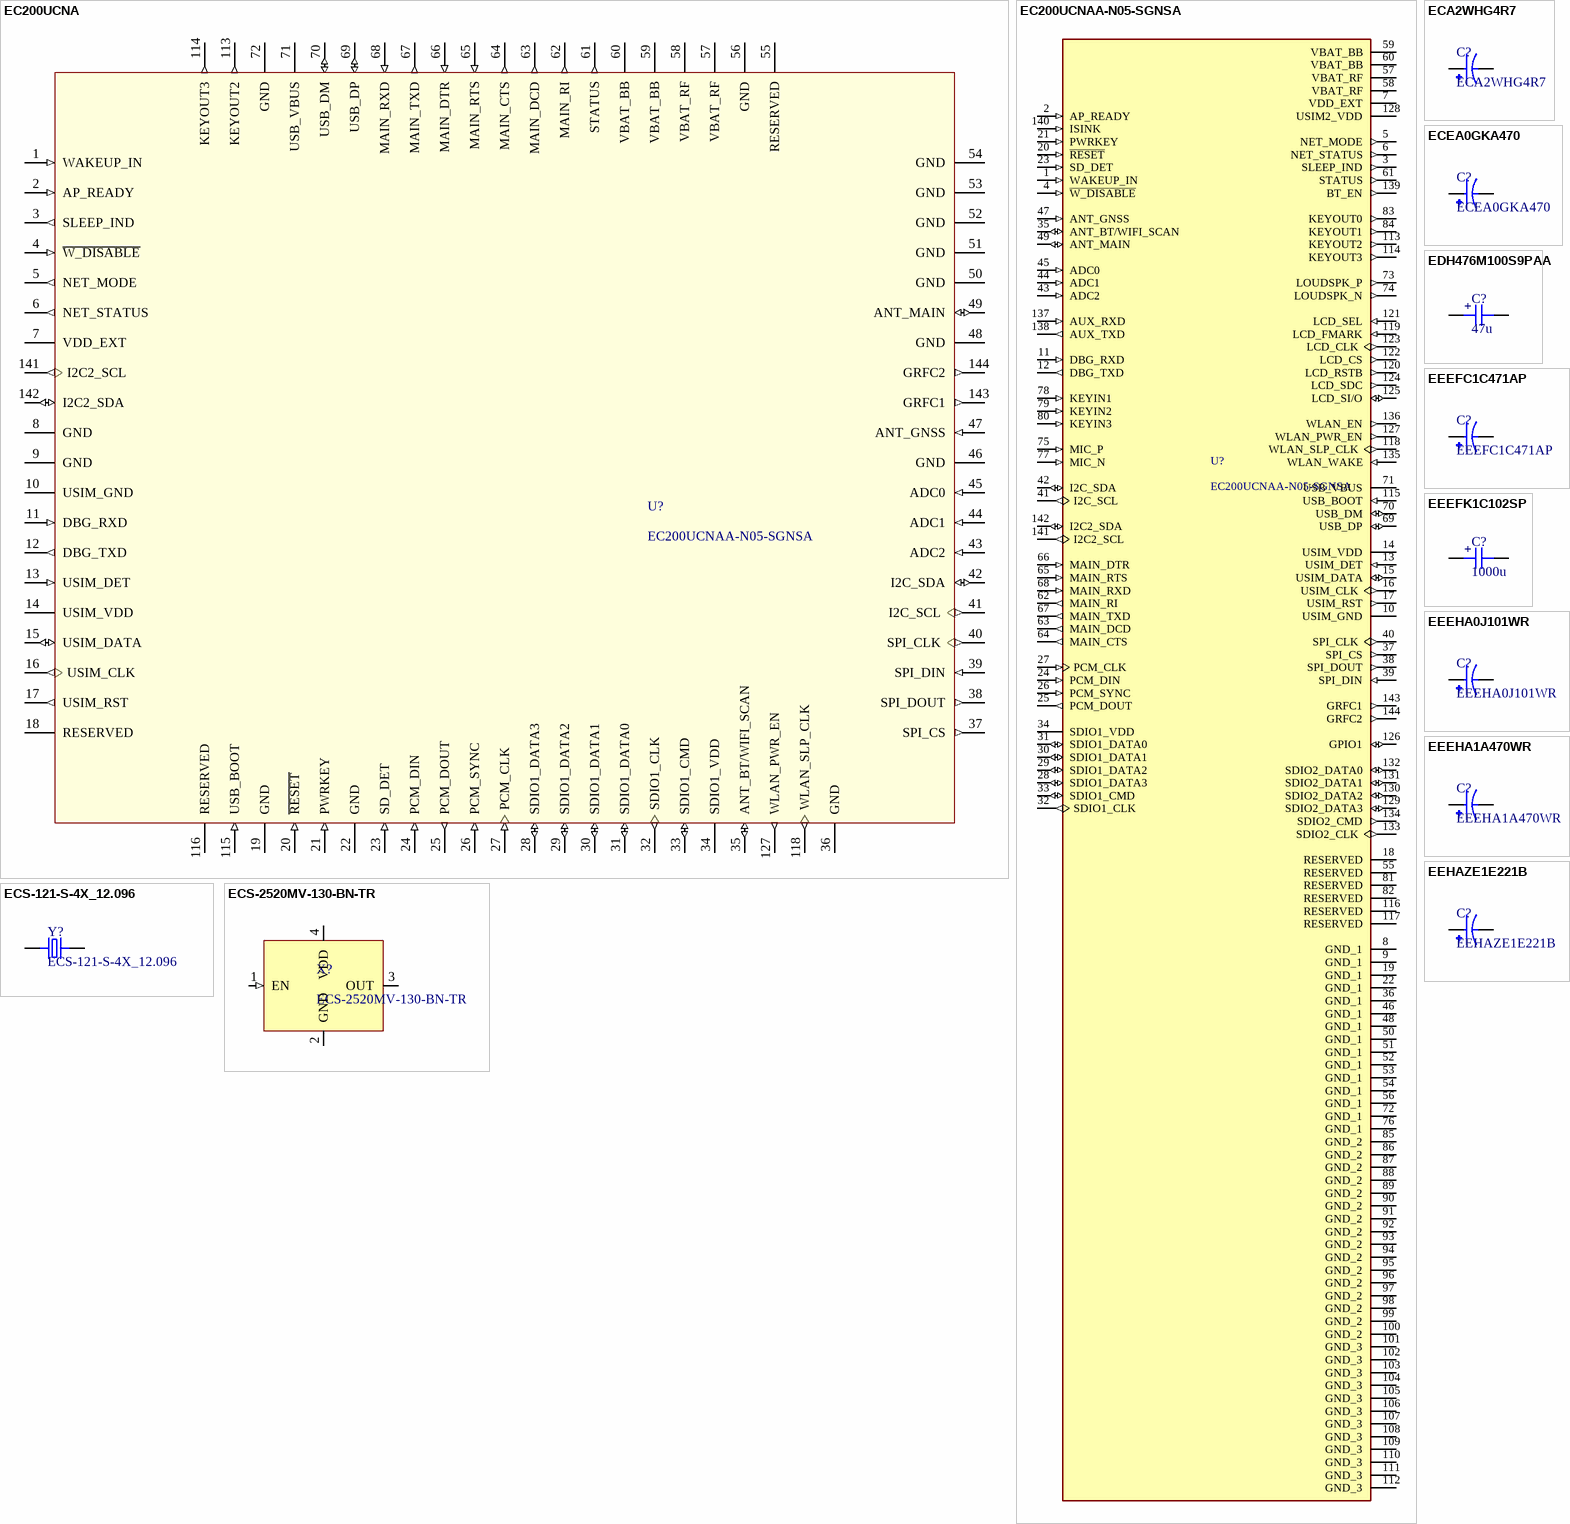
[diagram p10: symbols EC200UCNA to EEHAZE1E221B]

## EC200UCNA
designator U?, comment EC200UCNAA-N05-SGNSA
Quectel 4G LTE Cat 1 wireless BT GNSS module; SnapEDA_Link: https://www.snapeda.com/parts/EC200UCNAA-N05-SGNSA/Quectel/view-part/?ref=snap; Package: None; Value: *; MF: Quectel; MP: EC200UCNAA-N05-SGNSA; Check_prices: https://www.snapeda.com/parts/EC200UCNAA-N05-SGNSA/Quectel/view-part/?ref=eda
footprint XCVR_EC200UCNAA-N05-SGNSA
pins: 1 WAKEUP_IN (in), 2 AP_READY (in), 3 SLEEP_IND (out), 4 ~{W_DISABLE} (in), 5 NET_MODE (out), 6 NET_STATUS (out), 7 VDD_EXT (power), 8 GND (power), 9 GND (power), 10 USIM_GND (power), 11 DBG_RXD (in), 12 DBG_TXD (out), 13 USIM_DET (in), 14 USIM_VDD (power), 15 USIM_DATA (io), 16 USIM_CLK (out), 17 USIM_RST (out), 18 RESERVED, 19 GND (power), 20 ~{RESET} (in), 21 PWRKEY (in), 22 GND (power), 23 SD_DET (in), 24 PCM_DIN (in), 25 PCM_DOUT (out), 26 PCM_SYNC (in), 27 PCM_CLK (in), 28 SDIO1_DATA3 (io), 29 SDIO1_DATA2 (io), 30 SDIO1_DATA1 (io), 31 SDIO1_DATA0 (io), 32 SDIO1_CLK (out), 33 SDIO1_CMD (io), 34 SDIO1_VDD (power), 35 ANT_BT/WIFI_SCAN (io), 36 GND (power), 37 SPI_CS (out), 38 SPI_DOUT (out), 39 SPI_DIN (in), 40 SPI_CLK (out), 41 I2C_SCL (out), 42 I2C_SDA (io), 43 ADC2 (in), 44 ADC1 (in), 45 ADC0 (in), 46 GND (power), 47 ANT_GNSS (in), 48 GND (power), 49 ANT_MAIN (io), 50 GND (power), 51 GND (power), 52 GND (power), 53 GND (power), 54 GND (power), 55 RESERVED, 56 GND (power), 57 VBAT_RF (power), 58 VBAT_RF (power), 59 VBAT_BB (power), 60 VBAT_BB (power), 61 STATUS (out), 62 MAIN_RI (out), 63 MAIN_DCD (out), 64 MAIN_CTS (out), 65 MAIN_RTS (in), 66 MAIN_DTR (in), 67 MAIN_TXD (out), 68 MAIN_RXD (in), 69 USB_DP (io), 70 USB_DM (io), 71 USB_VBUS (power), 72 GND (power), 113 KEYOUT2 (out), 114 KEYOUT3 (out), 115 USB_BOOT (in), 116 RESERVED, 118 WLAN_SLP_CLK (out), 127 WLAN_PWR_EN (out), 141 I2C2_SCL (out), 142 I2C2_SDA (io), 143 GRFC1 (out), 144 GRFC2 (out)

## EC200UCNAA-N05-SGNSA
designator U?
Quectel 4G LTE Cat 1 wireless BT GNSS module; SnapEDA_Link: https://www.snapeda.com/parts/EC200UCNAA-N05-SGNSA/Quectel/view-part/?ref=snap; Package: None; Value: *; MF: Quectel; MP: EC200UCNAA-N05-SGNSA; Check_prices: https://www.snapeda.com/parts/EC200UCNAA-N05-SGNSA/Quectel/view-part/?ref=eda
footprint XCVR_EC200UCNAA-N05-SGNSA
pins: 1 WAKEUP_IN (in), 2 AP_READY (in), 3 SLEEP_IND (out), 4 ~{W_DISABLE} (in), 5 NET_MODE (out), 6 NET_STATUS (out), 7 VDD_EXT (power), 8 GND_1 (power), 9 GND_1 (power), 10 USIM_GND (power), 11 DBG_RXD (in), 12 DBG_TXD (out), 13 USIM_DET (in), 14 USIM_VDD (power), 15 USIM_DATA (io), 16 USIM_CLK (out), 17 USIM_RST (out), 18 RESERVED, 19 GND_1 (power), 20 ~{RESET} (in), 21 PWRKEY (in), 22 GND_1 (power), 23 SD_DET (in), 24 PCM_DIN (in), 25 PCM_DOUT (out), 26 PCM_SYNC (in), 27 PCM_CLK (in), 28 SDIO1_DATA3 (io), 29 SDIO1_DATA2 (io), 30 SDIO1_DATA1 (io), 31 SDIO1_DATA0 (io), 32 SDIO1_CLK (out), 33 SDIO1_CMD (io), 34 SDIO1_VDD (power), 35 ANT_BT/WIFI_SCAN (io), 36 GND_1 (power), 37 SPI_CS (out), 38 SPI_DOUT (out), 39 SPI_DIN (in), 40 SPI_CLK (out), 41 I2C_SCL (out), 42 I2C_SDA (io), 43 ADC2 (in), 44 ADC1 (in), 45 ADC0 (in), 46 GND_1 (power), 47 ANT_GNSS (in), 48 GND_1 (power), 49 ANT_MAIN (io), 50 GND_1 (power), 51 GND_1 (power), 52 GND_1 (power), 53 GND_1 (power), 54 GND_1 (power), 55 RESERVED, 56 GND_1 (power), 57 VBAT_RF (power), 58 VBAT_RF (power), 59 VBAT_BB (power), 60 VBAT_BB (power), 61 STATUS (out), 62 MAIN_RI (out), 63 MAIN_DCD (out), 64 MAIN_CTS (out), 65 MAIN_RTS (in), 66 MAIN_DTR (in), 67 MAIN_TXD (out), 68 MAIN_RXD (in), 69 USB_DP (io), 70 USB_DM (io), 71 USB_VBUS (power), 72 GND_1 (power), 73 LOUDSPK_P (out), 74 LOUDSPK_N (out), 75 MIC_P (in), 76 GND_1 (power), 77 MIC_N (in), 78 KEYIN1 (in), 79 KEYIN2 (in), 80 KEYIN3 (in), 81 RESERVED, 82 RESERVED, 83 KEYOUT0 (out), 84 KEYOUT1 (out), 85 GND_2 (power), 86 GND_2 (power), 87 GND_2 (power), 88 GND_2 (power), 89 GND_2 (power), 90 GND_2 (power), 91 GND_2 (power), 92 GND_2 (power), 93 GND_2 (power), 94 GND_2 (power), 95 GND_2 (power), 96 GND_2 (power), 97 GND_2 (power), 98 GND_2 (power), 99 GND_2 (power), 100 GND_2 (power), 101 GND_3 (power), 102 GND_3 (power), 103 GND_3 (power), 104 GND_3 (power), 105 GND_3 (power), 106 GND_3 (power), 107 GND_3 (power), 108 GND_3 (power), 109 GND_3 (power), 110 GND_3 (power), 111 GND_3 (power), 112 GND_3 (power), 113 KEYOUT2 (out), 114 KEYOUT3 (out), 115 USB_BOOT (in), 116 RESERVED, 117 RESERVED, 118 WLAN_SLP_CLK (out), 119 LCD_FMARK (in), 120 LCD_RSTB (out), 121 LCD_SEL (in), 122 LCD_CS (out), 123 LCD_CLK (out), 124 LCD_SDC (out), 125 LCD_SI/O (io), 126 GPIO1 (io), 127 WLAN_PWR_EN (out), 128 USIM2_VDD (power), 129 SDIO2_DATA3 (io), 130 SDIO2_DATA2 (io), 131 SDIO2_DATA1 (io), 132 SDIO2_DATA0 (io), 133 SDIO2_CLK (out), 134 SDIO2_CMD (out), 135 WLAN_WAKE (in), 136 WLAN_EN (out), 137 AUX_RXD (in), 138 AUX_TXD (out), 139 BT_EN (out), 140 ISINK (in), 141 I2C2_SCL (out), 142 I2C2_SDA (io), 143 GRFC1 (out), 144 GRFC2 (out)

## ECA2WHG4R7
designator C?
4.7F 450V Aluminum Electrolytic Capacitors Radial, Can 2000 Hrs @ 105C; MF: Panasonic; Check_prices: https://www.snapeda.com/parts/ECA2WHG4R7/Panasonic/view-part/?ref=eda; Purchase-URL: https://pricing.snapeda.com/search/part/ECA2WHG4R7/?ref=eda; Package: RADIAL-2 Panasonic; SnapEDA_Link: https://www.snapeda.com/parts/ECA2WHG4R7/Panasonic/view-part/?ref=snap; MP: ECA2WHG4R7; Digi-Key_Part_Number: P19573TB-ND; Value: *
footprint CAPPRD500W60D1000H2000
pins: N, P

## ECEA0GKA470
designator C?
CAPACITOR, RADIAL, 4V, 47UF; Capacitance:47F; Capacitance Tolerance: 20%; Voltage Rating:4V; Life Time @ Temperature:1000 hours @ 85C; Height:7mm; Diameter:4mm; Capacitor Terminals:Radial Leaded; Lead Spacing:1.5mm; Operating Temperature Range:-40C to +85C; AC Ripple Current:34mA; Capacitor Application:General Purpose; Capacitor Mounting:Through Hole; MF: Panasonic; SnapEDA_Link: https://www.snapeda.com/parts/ECEA0GKA470/Panasonic/view-part/?ref=snap; Package: RADIAL-2 Panasonic; MP: ECEA0GKA470; Check_prices: https://www.snapeda.com/parts/ECEA0GKA470/Panasonic/view-part/?ref=eda; Purchase-URL: https://pricing.snapeda.com/search/part/ECEA0GKA470/?ref=eda; Price: None; Value: *; Availability: In Stock
footprint CAPPRD150W45D400H700
pins: N, P

## ECS-121-S-4X_12.096
designator Y?
CRYSTAL T/H; MP: ECS-121-S-4X 12.096; Package: None; Price: None; Value: *; Availability: Unavailable
footprint XTAL_ECS-160-20-4X
pins: 1, 2

## ECS-2520MV-130-BN-TR
designator X?
Standard Clock Oscillators XO (Standard),13MHz,Standby (Power Down),CMOS, Multi-Volt,1.6 V 3.6 V,+/-50ppm,-40 C 85 C,6mA,Surface Mount,4-SMD, No Lead,(2.50mm x 2.00mm),(0.80mm); Manufacturer: ECS; Manufacturer Part Number: ECS-2520MV-130-BN-TR
footprint SSOP5
footprint XTAL_2520
pins: 1 EN (in), 2 GND (power), 3 OUT, 4 VDD (power)

## EDH476M100S9PAA
designator C?, comment 47u
Capacitor SMD Aluminium Electrolytic 10.3x10.3x10.2mm 47uF 100V 170mA 2000hrs; Manufacturer: KEMET; Manufacturer Part Number: 170mA
footprint EDH476M100S9PAA
pins: 1, 2
text: +

## EEEFC1C471AP
designator C?
470µF 25V Aluminum Electrolytic Capacitors Radial, Can - SMD 1000 Hrs @ 105Â°C; MP: EEE-FC1C471AP; MF: Panasonic; Package: Radial Panasonic; Check_prices: https://www.snapeda.com/parts/EEE-FC1C471AP/Panasonic%20Electronic%20Components/view-part/51968/?ref=eda; Value: *; Price: None; Availability: In Stock; SnapEDA_Link: https://www.snapeda.com/parts/EEE-FC1C471AP/Panasonic%20Electronic%20Components/view-part/51968/?ref=snap
footprint CAP_EEEFC1C471AP
pins: 1, 2

## EEEFK1C102SP
designator C?, comment 1000u
Capacitor SMD Aluminium Electrolytic 10mm x 10.2mm 16V 20% 2000hrs; Manufacturer: Panasonic; Manufacturer Part Number: EEEFK1C102SP; LCSC: C178532
footprint CAPAE120103X105N (Aluminum Electrolytic Capacitor, Body 10.30x10.30x10.50mm, IPC Medium Density)
pins: 1, 2
text: +

## EEEHA0J101WR
designator C?
CAPACITOR ALUM ELEC, 100UF, 20%, 6.3V, S; CAPACITOR ALUM ELEC, 100UF, 20%, 6.3V, SMD; Product Range:PANASONIC - HA Series; Capacitance:100ÂµF; Capacitance Tolerance:Â± 20%; Voltage Rating:6.3V; Capacitor Case Style:Radial Can - SMD; Diameter:5mm; Height:5.4mm; Series:HA; MF: Panasonic Electronic; MP: EEE-HA0J101WR; Availability: In Stock; Check_prices: https://www.snapeda.com/parts/EEE-HA0J101WR/Panasonic%20Electronic%20Components/view-part/2733110/?ref=eda; SnapEDA_Link: https://www.snapeda.com/parts/EEE-HA0J101WR/Panasonic%20Electronic%20Components/view-part/2733110/?ref=snap; Purchase-URL: https://pricing.snapeda.com/search/part/EEE-HA0J101WR/?ref=eda; Package: RADIAL-2 Panasonic; Value: *; Price: None
footprint CAP_EEEHA0J101WR
pins: 1, 2

## EEEHA1A470WR
designator C?
47ÂµF 10V Aluminum Electrolytic Capacitors Radial, Can - SMD 1000 Hrs @ 105Â°C; MF: Panasonic; MP: EEE-HA1A470WR; SnapEDA_Link: https://www.snapeda.com/parts/EEE-HA1A470WR/Panasonic/view-part/461961/?ref=snap; Availability: In Stock; Purchase-URL: https://pricing.snapeda.com/search/part/EEE-HA1A470WR/?ref=eda; Check_prices: https://www.snapeda.com/parts/EEE-HA1A470WR/Panasonic/view-part/461961/?ref=eda; Value: *; Package: RADIAL-2 Panasonic; Price: None
footprint CAP_EEEHA1A470WR
pins: 1, 2

## EEHAZE1E221B
designator C?
Panasonic 220?F Hybrid Aluminium Electrolytic Capacitor 25V dc, Through Hole - EEHAZE1E221B; Value: *; MP: EEHAZE1E221B; Package: RADIAL-2 Panasonic; Availability: In Stock; SnapEDA_Link: https://www.snapeda.com/parts/EEHAZE1E221B/Panasonic/view-part/6169436/?ref=snap; Price: None; Purchase-URL: https://pricing.snapeda.com/search/part/EEHAZE1E221B/?ref=eda; Check_prices: https://www.snapeda.com/parts/EEHAZE1E221B/Panasonic/view-part/6169436/?ref=eda; MF: Panasonic
footprint CAPPRD350W60D800H950
pins: N, P

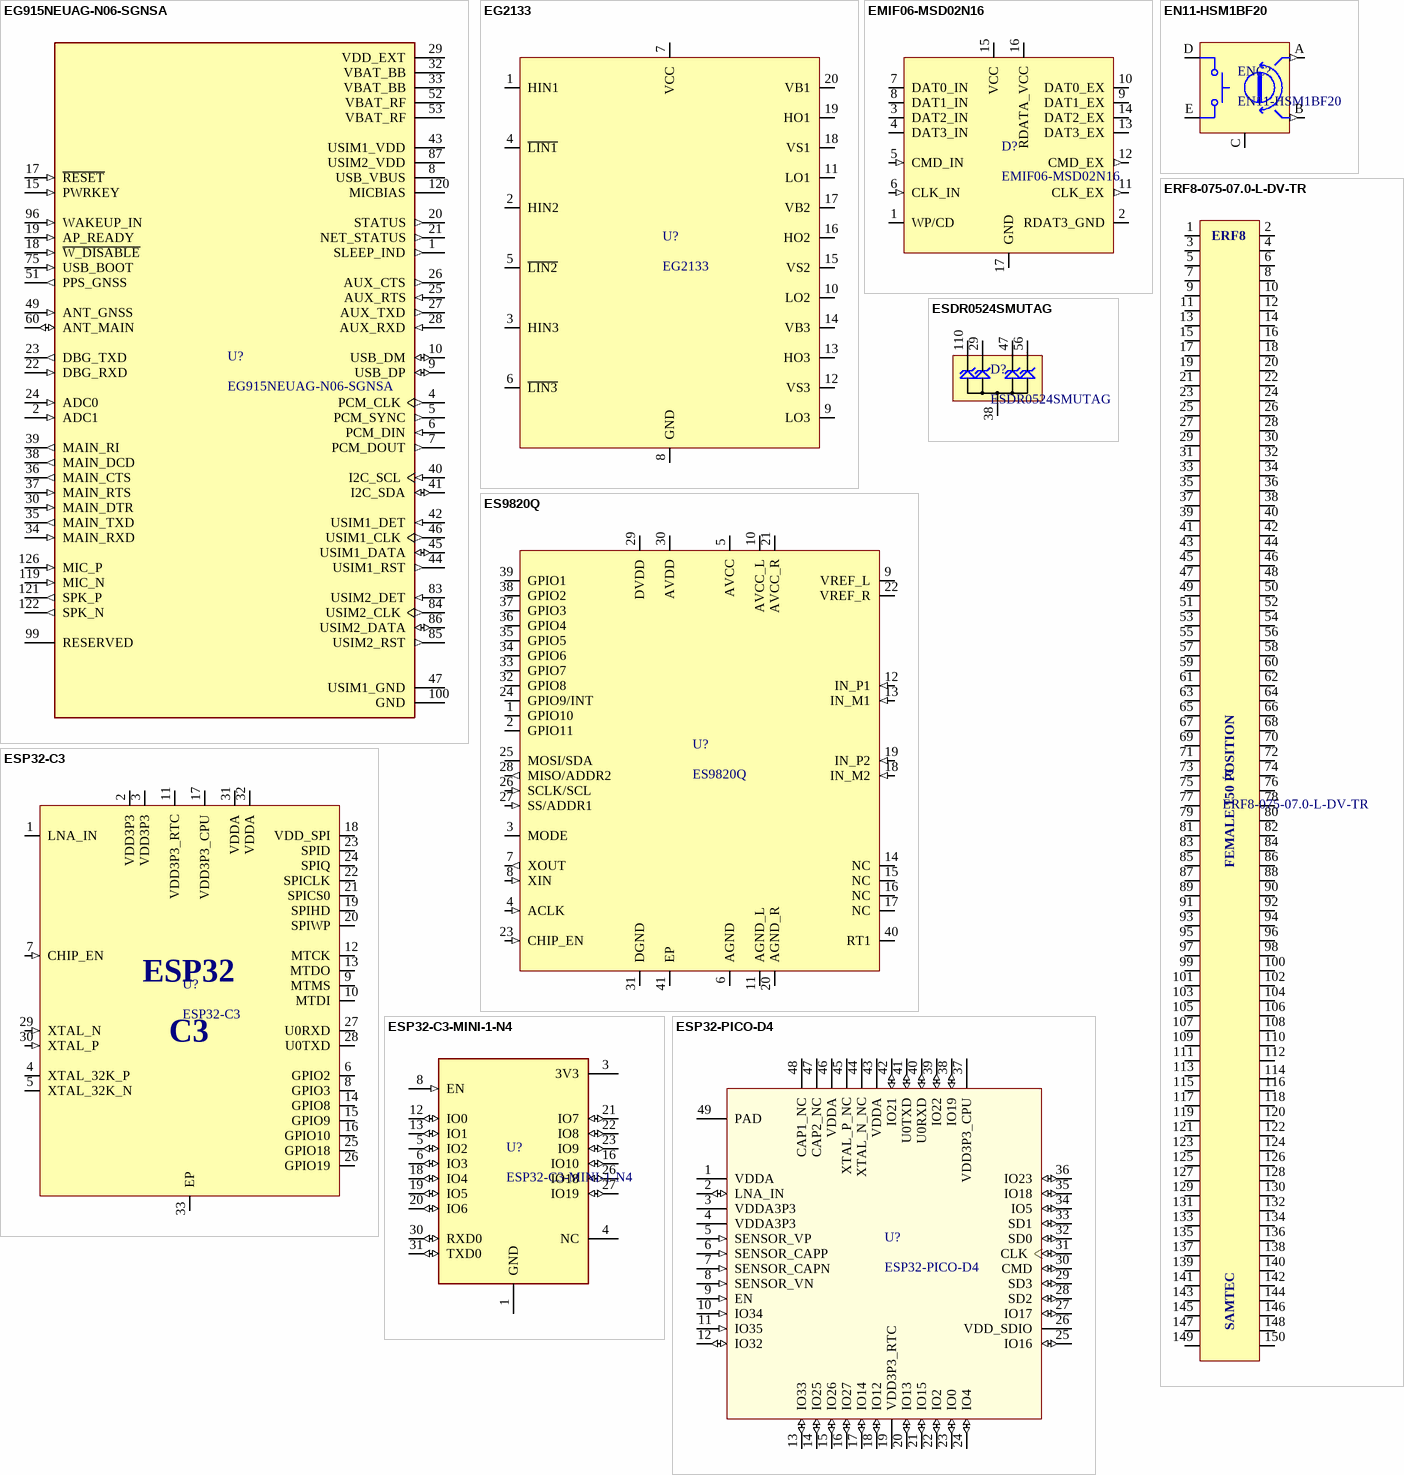
[diagram p11: symbols EG915NEUAG-N06-SGNSA to ESP32-PICO-D4]

## EG915NEUAG-N06-SGNSA
designator U?
LTE Cat 1 module; MF: Quectel; Package: NON-STANDARD-126 Quectel; MP: EG915NEUAG-N06-SGNSA; Check_prices: https://www.snapeda.com/parts/EG915NEUAG-N06-SGNSA/Quectel/view-part/?ref=eda; Value: *; Price: None; Availability: In Stock; SnapEDA_Link: https://www.snapeda.com/parts/EG915NEUAG-N06-SGNSA/Quectel/view-part/?ref=snap
footprint XCVR_EG915NEUAG-N06-SGNSA
pins: 1 SLEEP_IND (out), 2 ADC1 (in), 4 PCM_CLK (out), 5 PCM_SYNC (out), 6 PCM_DIN (in), 7 PCM_DOUT (out), 8 USB_VBUS (power), 9 USB_DP (io), 10 USB_DM (io), 15 PWRKEY (in), 17 ~{RESET} (in), 18 ~{W_DISABLE} (in), 19 AP_READY (in), 20 STATUS (out), 21 NET_STATUS (out), 22 DBG_RXD (in), 23 DBG_TXD (out), 24 ADC0 (in), 25 AUX_RTS (in), 26 AUX_CTS (out), 27 AUX_TXD (out), 28 AUX_RXD (in), 29 VDD_EXT (power), 30 MAIN_DTR (in), 32 VBAT_BB (power), 33 VBAT_BB (power), 34 MAIN_RXD (in), 35 MAIN_TXD (out), 36 MAIN_CTS (out), 37 MAIN_RTS (in), 38 MAIN_DCD (out), 39 MAIN_RI (out), 40 I2C_SCL (in), 41 I2C_SDA (io), 42 USIM1_DET (in), 43 USIM1_VDD (power), 44 USIM1_RST (out), 45 USIM1_DATA (io), 46 USIM1_CLK (out), 47 USIM1_GND (power), 49 ANT_GNSS (in), 51 PPS_GNSS (out), 52 VBAT_RF (power), 53 VBAT_RF (power), 60 ANT_MAIN (io), 75 USB_BOOT (in), 83 USIM2_DET (in), 84 USIM2_CLK (out), 85 USIM2_RST (out), 86 USIM2_DATA (io), 87 USIM2_VDD (power), 96 WAKEUP_IN (in), 99 RESERVED, 100 GND (power), 119 MIC_N (in), 120 MICBIAS (power), 121 SPK_P (out), 122 SPK_N (out), 126 MIC_P (in)

## EG2133
designator U?
Triple Half-Bridge Gate Driver IC TSSOP-20; Manufacturer: EG Micro; Manufacturer Part Number: EG2133; LCSC Part #: C405330
footprint TSSOP-20 (TSOP, 20-Leads, Body 6,50x4,40mm, Pitch 0,65mm, IPC Medium Density)
pins: 1 HIN1, 2 HIN2, 3 HIN3, 4 ~{LIN1}, 5 ~{LIN2}, 6 ~{LIN3}, 7 VCC, 8 GND, 9 LO3, 10 LO2, 11 LO1, 12 VS3, 13 HO3, 14 VB3, 15 VS2, 16 HO2, 17 VB2, 18 VS1, 19 HO1, 20 VB1

## EMIF06-MSD02N16
designator D?
6-line IPAD EMI filter and ESD protection; Manufacturer: STMicroelectronics; Manufacturer Part Number: EMIF06-MSD02N16; Distributor Link: https://www.mouser.de/ProductDetail/STMicroelectronics/EMIF06-MSD02N16?qs=1CGoW%2F3pMwpSqVuN8kmN4Q%3D%3D; LCSC: C5267594
footprint uQFN-3_5x1_2-16L
pins: 1 WP/CD, 2 RDAT3_GND, 3 DAT2_IN (io), 4 DAT3_IN (io), 5 CMD_IN (in), 6 CLK_IN (in), 7 DAT0_IN (io), 8 DAT1_IN (io), 9 DAT1_EX (io), 10 DAT0_EX (io), 11 CLK_EX (out), 12 CMD_EX (out), 13 DAT3_EX (io), 14 DAT2_EX (io), 15 VCC (power), 16 RDATA_VCC (power), 17 GND (power)

## EN11-HSM1BF20
designator ENC?
Rotary Encoder with Switch 20 Detents 7mm Bushing 20mm Threaded Shaft Vertical; Manufacturer: TT Electronics; Manufacturer Part Number: EN11-HSM1BF20; Distributor Link: https://www.mouser.de/ProductDetail/BI-Technologies-TT-Electronics/EN11-HSM1BF20?qs=%252BUYXD5bnyXp4Uf1MU7v3zw%3D%3D
footprint EN11-HSM
pins: A (out), B (out), C GND (power), D, E

## ERF8-075-07.0-L-DV-TR
designator J?
Mezzanine Connector Female Samtec 0.80 mm Edge Rate® Rugged High Speed Socket; Manufacturer: Samtec; Manufacturer Part Number: ERF8-075-07.0-L-DV-TR
footprint ERF8-075-07.0-L-DV-TR
pins: 1, 2, 3, 4, 5, 6, 7, 8, 9, 10, 11, 12, 13, 14, 15, 16, 17, 18, 19, 20, 21, 22, 23, 24, 25, 26, 27, 28, 29, 30, 31, 32, 33, 34, 35, 36, 37, 38, 39, 40, 41, 42, 43, 44, 45, 46, 47, 48, 49, 50, 51, 52, 53, 54, 55, 56, 57, 58, 59, 60, 61, 62, 63, 64, 65, 66, 67, 68, 69, 70, 71, 72, 73, 74, 75, 76, 77, 78, 79, 80, 81, 82, 83, 84, 85, 86, 87, 88, 89, 90, 91, 92, 93, 94, 95, 96, 97, 98, 99, 100, 101, 102, 103, 104, 105, 106, 107, 108, 109, 110, 111, 112, 113, 114, 115, 116, 117, 118, 119, 120, 121, 122, 123, 124, 125, 126, 127, 128, 129, 130, 131, 132, 133, 134, 135, 136, 137, 138, 139, 140, 141, 142, 143, 144, 145, 146, 147, 148, 149, 150
text: ERF8; FEMALE 150 POSITION; SAMTEC

## ES9820Q
designator U?
32-bit High-Performance 2-Channel ADC; Manufacturer: ESS Technology; Manufacturer Part Number: ES9820Q
footprint QFN-40-0.4-EP (QFN 40 Pads 0.4mm Pitch Thermal Pad)
pins: 1 GPIO10 (io), 2 GPIO11 (io), 3 MODE, 4 ACLK (in), 5 AVCC (power), 6 AGND (power), 7 XOUT (out), 8 XIN (in), 9 VREF_L (power), 10 AVCC_L (power), 11 AGND_L (power), 12 IN_P1 (in), 13 IN_M1 (in), 14 NC, 15 NC, 16 NC (hiz), 17 NC, 18 IN_M2 (in), 19 IN_P2 (in), 20 AGND_R (power), 21 AVCC_R (power), 22 VREF_R (power), 23 CHIP_EN (in), 24 GPIO9/INT (io), 25 MOSI/SDA (io), 26 SCLK/SCL (in), 27 SS/ADDR1 (in), 28 MISO/ADDR2 (out), 29 DVDD (power), 30 AVDD (power), 31 DGND (power), 32 GPIO8 (io), 33 GPIO7 (io), 34 GPIO6 (io), 35 GPIO5 (io), 36 GPIO4 (io), 37 GPIO3 (io), 38 GPIO2 (io), 39 GPIO1 (io), 40 RT1, 41 EP (power)

## ESDR0524SMUTAG
designator D?
TVS Diode Array Low Capacitance ESD Protection 4-Channel (Vwork=5V, Vclamp=15V); Manufacturer: onsemi; Manufacturer Part Number: ESDR0524SMUTAG; Distributor Link: https://www.mouser.de/ProductDetail/onsemi/ESDR0524SMUTAG?qs=NJQfjRgVp6Qe%2FuopsuIgOg%3D%3D; LCSC: C890633
footprint uDFN-10-WIDE
pins: 29, 38 GND, 47, 56, 110

## ESP32-C3
designator U?
Ultra­Low­Power SoC with RISC­V Single­Core CPU Supporting IEEE 802.11b/g/n (2.4 GHz Wi­Fi) and Bluetooth® 5 (LE); Manufacturer: Espressif; Manufacturer Part Number: ESP32-C3; LCSC: C2838500
footprint QFN32-5x5
pins: 1 LNA_IN (io), 2 VDD3P3 (power), 3 VDD3P3 (power), 4 XTAL_32K_P (io), 5 XTAL_32K_N (io), 6 GPIO2 (io), 7 CHIP_EN (in), 8 GPIO3 (io), 9 MTMS (io), 10 MTDI (io), 11 VDD3P3_RTC (power), 12 MTCK (io), 13 MTDO (io), 14 GPIO8 (io), 15 GPIO9 (io), 16 GPIO10 (io), 17 VDD3P3_CPU (power), 18 VDD_SPI (power), 19 SPIHD (io), 20 SPIWP (io), 21 SPICS0 (io), 22 SPICLK (io), 23 SPID (io), 24 SPIQ (io), 25 GPIO18 (io), 26 GPIO19 (io), 27 U0RXD (io), 28 U0TXD (io), 29 XTAL_N (in), 30 XTAL_P (in), 31 VDDA (power), 32 VDDA (power), 33 EP (power)
text: ESP32; C3

## ESP32-C3-MINI-1-N4
designator U?
Bluetooth, WiFi 802.11b/g/n, Bluetooth v5.0 Transceiver Module 2.412GHz ~ 2.484GHz PCB Trace Surface Mount; MF: Espressif Systems; SnapEDA_Link: https://www.snapeda.com/parts/ESP32-C3-MINI-1-N4/Espressif+Systems/view-part/?ref=snap; Package: SMD-53 Espressif Systems; Value: *; MP: ESP32-C3-MINI-1-N4; Check_prices: https://www.snapeda.com/parts/ESP32-C3-MINI-1-N4/Espressif+Systems/view-part/?ref=eda
footprint XCVR_ESP32-C3-MINI-1-N4
pins: 1 GND (power), 3 3V3 (power), 4 NC, 5 IO2 (io), 6 IO3 (io), 8 EN (in), 12 IO0 (io), 13 IO1 (io), 16 IO10 (io), 18 IO4 (io), 19 IO5 (io), 20 IO6 (io), 21 IO7 (io), 22 IO8 (io), 23 IO9 (io), 26 IO18 (io), 27 IO19 (io), 30 RXD0 (io), 31 TXD0 (io)

## ESP32-PICO-D4
designator U?
Bluetooth, WiFi 802.11b/g/n, Bluetooth v4.2 +EDR, Class 1, 2 and 3 Transceiver Module 2.4GHz ~ 2.5GHz Surface Mount; Value: *; Availability: Unavailable; Price: None; MP: ESP32-PICO-D4; Package: None
footprint PQFN50P700X700X104-49N
pins: 1 VDDA (power), 2 LNA_IN (io), 3 VDDA3P3 (power), 4 VDDA3P3 (power), 5 SENSOR_VP (in), 6 SENSOR_CAPP (in), 7 SENSOR_CAPN (in), 8 SENSOR_VN (in), 9 EN (in), 10 IO34 (in), 11 IO35 (in), 12 IO32 (io), 13 IO33 (io), 14 IO25 (io), 15 IO26 (io), 16 IO27 (io), 17 IO14 (io), 18 IO12 (io), 19 VDD3P3_RTC (power), 20 IO13 (io), 21 IO15 (io), 22 IO2 (io), 23 IO0 (io), 24 IO4 (io), 25 IO16 (io), 26 VDD_SDIO (power), 27 IO17 (io), 28 SD2 (io), 29 SD3 (io), 30 CMD (io), 31 CLK (io), 32 SD0 (io), 33 SD1 (io), 34 IO5 (io), 35 IO18 (io), 36 IO23 (io), 37 VDD3P3_CPU (power), 38 IO19 (io), 39 IO22 (io), 40 U0RXD (io), 41 U0TXD (io), 42 IO21 (io), 43 VDDA (power), 44 XTAL_N_NC, 45 XTAL_P_NC, 46 VDDA (power), 47 CAP2_NC, 48 CAP1_NC, 49 PAD (power)

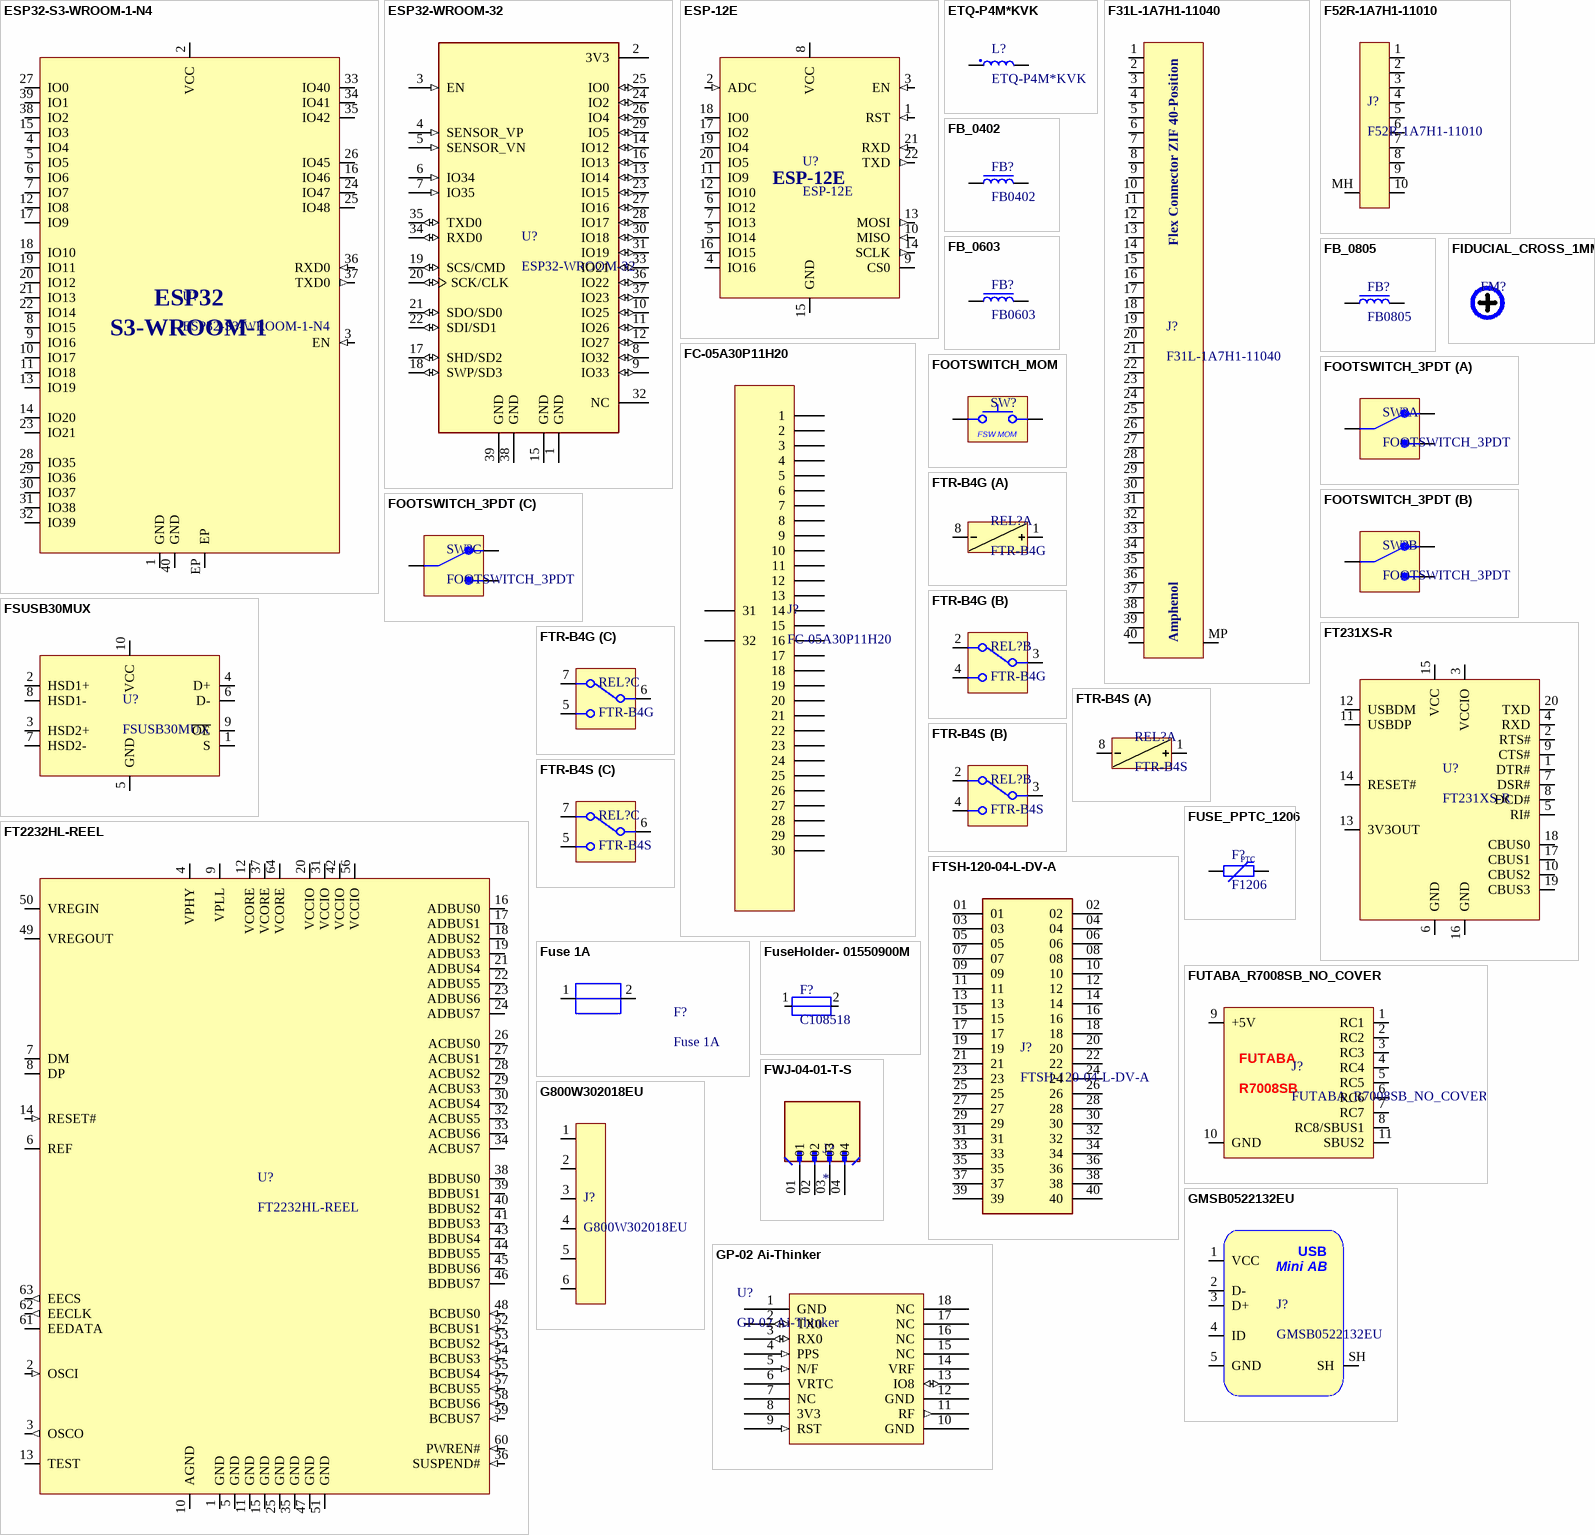
[diagram p12: symbols ESP32-S3-WROOM-1-N4 to GP-02 Ai-Thinker]

## ESP32-S3-WROOM-1-N4
designator U?
2.4 GHz Wi-Fi (802.11 b/g/n) and Bluetooth 5 (LE) Module ESP32-S3, 4MB Flash, on-board PCB antenna); Manufacturer: Espressif; Manufacturer Part Number: ESP32-S3-WROOM-1-N4; Distributor Link: https://www.mouser.de/ProductDetail/Espressif-Systems/ESP32-S3-WROOM-1-N4?qs=Li%252BoUPsLEnsO%2FkiJOUK0FQ%3D%3D
footprint ESP32-S3-WROOM-1
pins: 1 GND (power), 2 VCC (power), 3 EN (in), 4 IO4 (io), 5 IO5 (io), 6 IO6 (io), 7 IO7 (io), 8 IO15 (io), 9 IO16 (io), 10 IO17 (io), 11 IO18 (io), 12 IO8 (io), 13 IO19 (io), 14 IO20 (io), 15 IO3 (io), 16 IO46 (io), 17 IO9 (io), 18 IO10 (io), 19 IO11 (io), 20 IO12 (io), 21 IO13 (io), 22 IO14 (io), 23 IO21 (io), 24 IO47 (io), 25 IO48 (io), 26 IO45 (io), 27 IO0 (io), 28 IO35 (io), 29 IO36 (io), 30 IO37 (io), 31 IO38 (io), 32 IO39 (io), 33 IO40 (io), 34 IO41 (io), 35 IO42 (io), 36 RXD0 (in), 37 TXD0 (out), 38 IO2 (io), 39 IO1 (io), 40 GND (power), EP (power)
text: ESP32; S3-WROOM-1

## ESP32-WROOM-32
designator U?
Bluetooth, WiFi 802.11b/g/n, Bluetooth v4.2 +EDR, Class 1, 2 and 3 Transceiver Module 2.4GHz ~ 2.5GHz Antenna Not Included, U.FL Surface Mount; MF: Espressif Systems; Price: None; Availability: In Stock; MP: ESP32-WROOM-32; Package: Module Espressif Systems; SnapEDA_Link: https://www.snapeda.com/parts/ESP32-WROOM-32/Espressif+Systems/view-part/?ref=snap; Check_prices: https://www.snapeda.com/parts/ESP32-WROOM-32/Espressif+Systems/view-part/?ref=eda; Value: *; Purchase-URL: https://pricing.snapeda.com/search/part/ESP32-WROOM-32/?ref=eda
footprint MODULE_ESP32-WROOM-32
pins: 1 GND (power), 2 3V3 (power), 3 EN (in), 4 SENSOR_VP (in), 5 SENSOR_VN (in), 6 IO34 (in), 7 IO35 (in), 8 IO32 (io), 9 IO33 (io), 10 IO25 (io), 11 IO26 (io), 12 IO27 (io), 13 IO14 (io), 14 IO12 (io), 15 GND (power), 16 IO13 (io), 17 SHD/SD2 (io), 18 SWP/SD3 (io), 19 SCS/CMD (io), 20 SCK/CLK (io), 21 SDO/SD0 (io), 22 SDI/SD1 (io), 23 IO15 (io), 24 IO2 (io), 25 IO0 (io), 26 IO4 (io), 27 IO16 (io), 28 IO17 (io), 29 IO5 (io), 30 IO18 (io), 31 IO19 (io), 32 NC, 33 IO21 (io), 34 RXD0 (io), 35 TXD0 (io), 36 IO22 (io), 37 IO23 (io), 38 GND (power), 39 GND (power)

## ESP-12E
designator U?
ESP8266 ESP-12E Module (ESP8266, Castellated Holes); Manufacturer: AI-THINKER; Manufacturer Part Number: ESP-12E; Distributor Link: *
footprint ESP-12E
pins: 1 RST (in), 2 ADC (in), 3 EN (in), 4 IO16 (io), 5 IO14 (io), 6 IO12 (io), 7 IO13 (io), 8 VCC (power), 9 CS0 (io), 10 MISO (in), 11 IO9 (io), 12 IO10 (io), 13 MOSI (out), 14 SCLK (out), 15 GND (power), 16 IO15 (io), 17 IO2 (io), 18 IO0 (io), 19 IO4 (io), 20 IO5 (io), 21 RXD (in), 22 TXD (out)